# Altium integrated library Integrated_Library1b.IntLib: 1312 symbols (part 57 of 58)
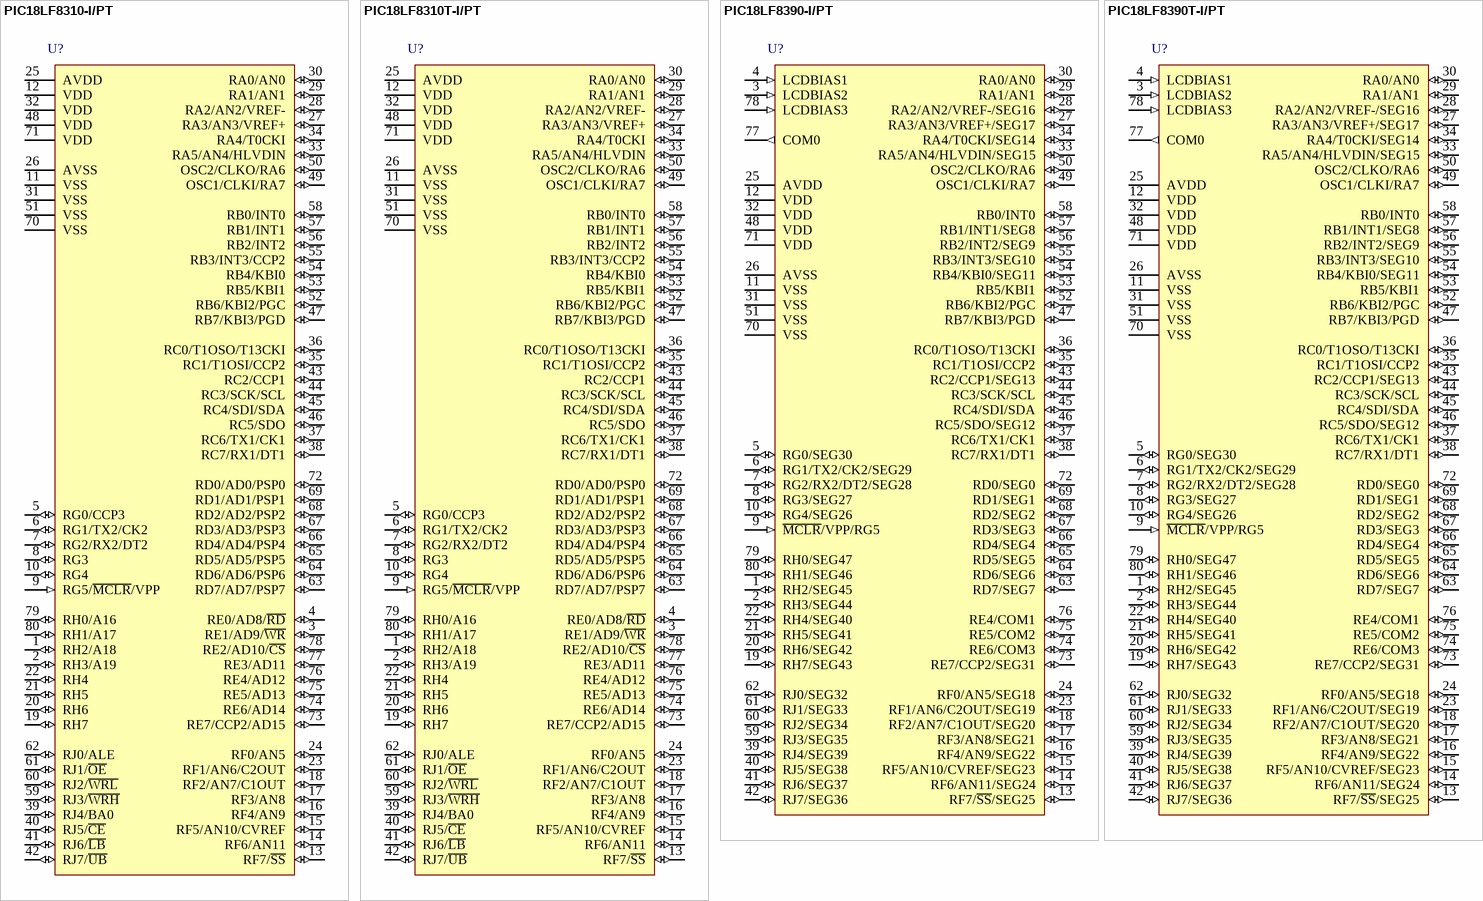
[diagram p205: symbols PIC18LF8310-I/PT to PIC18LF8390T-I/PT]

## PIC18LF8390-I/PT
designator U?
Flash Microcontroller with LCD Driver and nanoWatt Technology, 8K Flash, 80-Pin TQFP, Industrial Temperature Range; FirstPublished: 29-Jan-2009; DatasheetVersion: revC, Nov-2007; PackageVersion: revBB, Aug-2009; PackageReference: TQFP-PT80; Publisher: Altium Limited; PackageDescription: 80-Lead Thin Plastic Quad Flat Pack (PT) - 12x12x1mm Body, 2.00mm [TQFP]; Supplier 1: Digi-Key; Supplier Part Number 1: PIC18LF8390-I/PT-ND; Supplier 2: Newark; Supplier Part Number 2: 08J9693; Code_JEDEC: MS-026; ComponentLink1Description: Datasheet; ComponentLink1URL: http://ww1.microchip.com/downloads/en/DeviceDoc/39629c.pdf; ComponentLink2Description: Packaging Specification; ComponentLink2URL: http://www.microchip.com/stellent/groups/techpub_sg/documents/packagingspec/en012702.pdf; ComponentLink3Description: Microchip.com Home; ComponentLink3URL: http://www.microchip.com/
footprint TQFP-PT80_N (Thin QFP, 80-Leads, Body 12x12mm, Pitch 0.5mm, IPC Medium Density)
footprint TQFP-PT80_L (Thin QFP, 80-Leads, Body 12x12mm, Pitch 0.5mm, IPC High Density)
footprint TQFP-PT80_M (Thin QFP, 80-Leads, Body 12x12mm, Pitch 0.5mm, IPC Low Density)
pins: 1 RH2/SEG45 (io), 2 RH3/SEG44 (io), 3 LCDBIAS2 (in), 4 LCDBIAS1 (in), 5 RG0/SEG30 (io), 6 RG1/TX2/CK2/SEG29 (io), 7 RG2/RX2/DT2/SEG28 (io), 8 RG3/SEG27 (io), 9 ~{MCLR}/VPP/RG5 (in), 10 RG4/SEG26 (io), 11 VSS (power), 12 VDD (power), 13 RF7/~{SS}/SEG25 (io), 14 RF6/AN11/SEG24 (io), 15 RF5/AN10/CVREF/SEG23 (io), 16 RF4/AN9/SEG22 (io), 17 RF3/AN8/SEG21 (io), 18 RF2/AN7/C1OUT/SEG20 (io), 19 RH7/SEG43 (io), 20 RH6/SEG42 (io), 21 RH5/SEG41 (io), 22 RH4/SEG40 (io), 23 RF1/AN6/C2OUT/SEG19 (io), 24 RF0/AN5/SEG18 (io), 25 AVDD (power), 26 AVSS (power), 27 RA3/AN3/VREF+/SEG17 (io), 28 RA2/AN2/VREF-/SEG16 (io), 29 RA1/AN1 (io), 30 RA0/AN0 (io), 31 VSS (power), 32 VDD (power), 33 RA5/AN4/HLVDIN/SEG15 (io), 34 RA4/T0CKI/SEG14 (io), 35 RC1/T1OSI/CCP2 (io), 36 RC0/T1OSO/T13CKI (io), 37 RC6/TX1/CK1 (io), 38 RC7/RX1/DT1 (io), 39 RJ4/SEG39 (io), 40 RJ5/SEG38 (io), 41 RJ6/SEG37 (io), 42 RJ7/SEG36 (io), 43 RC2/CCP1/SEG13 (io), 44 RC3/SCK/SCL (io), 45 RC4/SDI/SDA (io), 46 RC5/SDO/SEG12 (io), 47 RB7/KBI3/PGD (io), 48 VDD (power), 49 OSC1/CLKI/RA7 (io), 50 OSC2/CLKO/RA6 (io), 51 VSS (power), 52 RB6/KBI2/PGC (io), 53 RB5/KBI1 (io), 54 RB4/KBI0/SEG11 (io), 55 RB3/INT3/SEG10 (io), 56 RB2/INT2/SEG9 (io), 57 RB1/INT1/SEG8 (io), 58 RB0/INT0 (io), 59 RJ3/SEG35 (io), 60 RJ2/SEG34 (io), 61 RJ1/SEG33 (io), 62 RJ0/SEG32 (io), 63 RD7/SEG7 (io), 64 RD6/SEG6 (io), 65 RD5/SEG5 (io), 66 RD4/SEG4 (io), 67 RD3/SEG3 (io), 68 RD2/SEG2 (io), 69 RD1/SEG1 (io), 70 VSS (power), 71 VDD (power), 72 RD0/SEG0 (io), 73 RE7/CCP2/SEG31 (io), 74 RE6/COM3 (io), 75 RE5/COM2 (io), 76 RE4/COM1 (io), 77 COM0 (out), 78 LCDBIAS3 (in), 79 RH0/SEG47 (io), 80 RH1/SEG46 (io)

## PIC18LF8390T-I/PT
designator U?
Flash Microcontroller with LCD Driver and nanoWatt Technology, 8K Flash, 80-Pin TQFP, Industrial Temperature Range, Tape and Reel; ComponentAvailability: Unknown. Contact manufacturer to determine status.; FirstPublished: 29-Jan-2009; DatasheetVersion: revC, Nov-2007; PackageVersion: revBB, Aug-2009; PackageReference: TQFP-PT80; Publisher: Altium Limited; PackageDescription: 80-Lead Thin Plastic Quad Flat Pack (PT) - 12x12x1mm Body, 2.00mm [TQFP]; Supplier 1: Digi-Key; Supplier Part Number 1: PIC18LF8390T-I/PT-ND; Supplier 2: Newark; Supplier Part Number 2: 08J9694; Code_JEDEC: MS-026; ComponentLink1Description: Datasheet; ComponentLink1URL: http://ww1.microchip.com/downloads/en/DeviceDoc/39629c.pdf; ComponentLink2Description: Packaging Specification; ComponentLink2URL: http://www.microchip.com/stellent/groups/techpub_sg/documents/packagingspec/en012702.pdf; ComponentLink3Description: Microchip.com Home; ComponentLink3URL: http://www.microchip.com/
footprint TQFP-PT80_N (Thin QFP, 80-Leads, Body 12x12mm, Pitch 0.5mm, IPC Medium Density)
footprint TQFP-PT80_L (Thin QFP, 80-Leads, Body 12x12mm, Pitch 0.5mm, IPC High Density)
footprint TQFP-PT80_M (Thin QFP, 80-Leads, Body 12x12mm, Pitch 0.5mm, IPC Low Density)
pins: 1 RH2/SEG45 (io), 2 RH3/SEG44 (io), 3 LCDBIAS2 (in), 4 LCDBIAS1 (in), 5 RG0/SEG30 (io), 6 RG1/TX2/CK2/SEG29 (io), 7 RG2/RX2/DT2/SEG28 (io), 8 RG3/SEG27 (io), 9 ~{MCLR}/VPP/RG5 (in), 10 RG4/SEG26 (io), 11 VSS (power), 12 VDD (power), 13 RF7/~{SS}/SEG25 (io), 14 RF6/AN11/SEG24 (io), 15 RF5/AN10/CVREF/SEG23 (io), 16 RF4/AN9/SEG22 (io), 17 RF3/AN8/SEG21 (io), 18 RF2/AN7/C1OUT/SEG20 (io), 19 RH7/SEG43 (io), 20 RH6/SEG42 (io), 21 RH5/SEG41 (io), 22 RH4/SEG40 (io), 23 RF1/AN6/C2OUT/SEG19 (io), 24 RF0/AN5/SEG18 (io), 25 AVDD (power), 26 AVSS (power), 27 RA3/AN3/VREF+/SEG17 (io), 28 RA2/AN2/VREF-/SEG16 (io), 29 RA1/AN1 (io), 30 RA0/AN0 (io), 31 VSS (power), 32 VDD (power), 33 RA5/AN4/HLVDIN/SEG15 (io), 34 RA4/T0CKI/SEG14 (io), 35 RC1/T1OSI/CCP2 (io), 36 RC0/T1OSO/T13CKI (io), 37 RC6/TX1/CK1 (io), 38 RC7/RX1/DT1 (io), 39 RJ4/SEG39 (io), 40 RJ5/SEG38 (io), 41 RJ6/SEG37 (io), 42 RJ7/SEG36 (io), 43 RC2/CCP1/SEG13 (io), 44 RC3/SCK/SCL (io), 45 RC4/SDI/SDA (io), 46 RC5/SDO/SEG12 (io), 47 RB7/KBI3/PGD (io), 48 VDD (power), 49 OSC1/CLKI/RA7 (io), 50 OSC2/CLKO/RA6 (io), 51 VSS (power), 52 RB6/KBI2/PGC (io), 53 RB5/KBI1 (io), 54 RB4/KBI0/SEG11 (io), 55 RB3/INT3/SEG10 (io), 56 RB2/INT2/SEG9 (io), 57 RB1/INT1/SEG8 (io), 58 RB0/INT0 (io), 59 RJ3/SEG35 (io), 60 RJ2/SEG34 (io), 61 RJ1/SEG33 (io), 62 RJ0/SEG32 (io), 63 RD7/SEG7 (io), 64 RD6/SEG6 (io), 65 RD5/SEG5 (io), 66 RD4/SEG4 (io), 67 RD3/SEG3 (io), 68 RD2/SEG2 (io), 69 RD1/SEG1 (io), 70 VSS (power), 71 VDD (power), 72 RD0/SEG0 (io), 73 RE7/CCP2/SEG31 (io), 74 RE6/COM3 (io), 75 RE5/COM2 (io), 76 RE4/COM1 (io), 77 COM0 (out), 78 LCDBIAS3 (in), 79 RH0/SEG47 (io), 80 RH1/SEG46 (io)

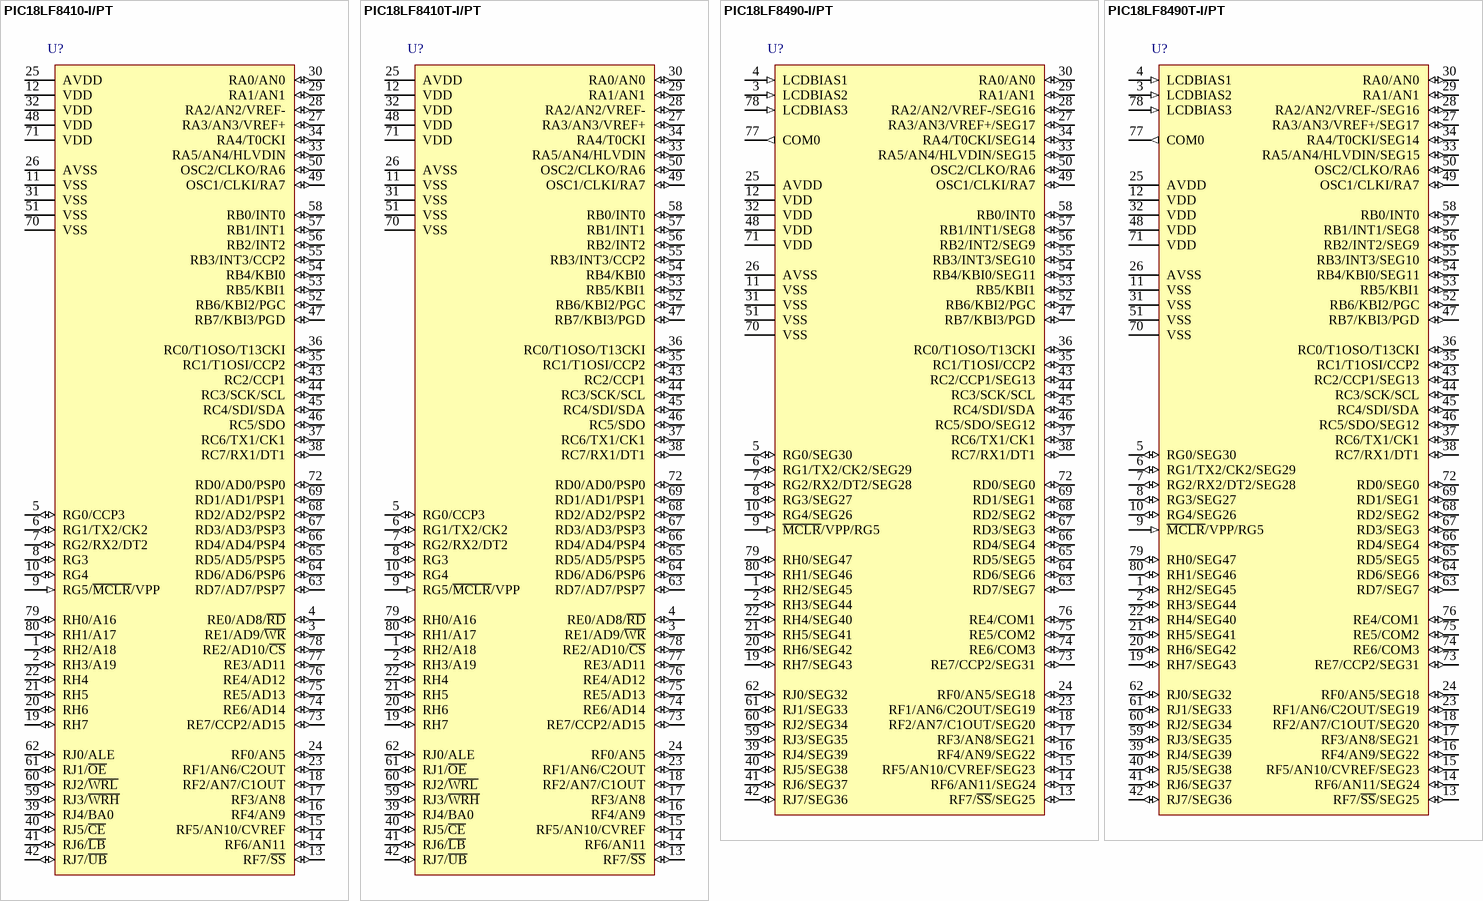
[diagram p144: symbols PIC18LF8410-I/PT to PIC18LF8490T-I/PT]

## PIC18LF8410-I/PT
designator U?
Flash Microcontroller with nanoWatt Technology, 16K Flash, 80-Pin TQFP, Industrial Temperature Range; FirstPublished: 29-Jan-2009; DatasheetVersion: revB, May-2007; PackageVersion: revBB, Aug-2009; PackageReference: TQFP-PT80; Publisher: Altium Limited; PackageDescription: 80-Lead Thin Plastic Quad Flat Pack (PT) - 12x12x1mm Body, 2.00mm [TQFP]; Supplier 1: Digi-Key; Supplier Part Number 1: PIC18LF8410-I/PT-ND; Supplier 2: Newark; Supplier Part Number 2: 08J9695; Code_JEDEC: MS-026; ComponentLink1Description: Datasheet; ComponentLink1URL: http://ww1.microchip.com/downloads/en/DeviceDoc/39635b.pdf; ComponentLink2Description: Packaging Specification; ComponentLink2URL: http://www.microchip.com/stellent/groups/techpub_sg/documents/packagingspec/en012702.pdf; ComponentLink3Description: Microchip.com Home; ComponentLink3URL: http://www.microchip.com/
footprint TQFP-PT80_N (Thin QFP, 80-Leads, Body 12x12mm, Pitch 0.5mm, IPC Medium Density)
footprint TQFP-PT80_L (Thin QFP, 80-Leads, Body 12x12mm, Pitch 0.5mm, IPC High Density)
footprint TQFP-PT80_M (Thin QFP, 80-Leads, Body 12x12mm, Pitch 0.5mm, IPC Low Density)
pins: 1 RH2/A18 (io), 2 RH3/A19 (io), 3 RE1/AD9/~{WR} (io), 4 RE0/AD8/~{RD} (io), 5 RG0/CCP3 (io), 6 RG1/TX2/CK2 (io), 7 RG2/RX2/DT2 (io), 8 RG3 (io), 9 RG5/~{MCLR}/VPP (in), 10 RG4 (io), 11 VSS (power), 12 VDD (power), 13 RF7/~{SS} (io), 14 RF6/AN11 (io), 15 RF5/AN10/CVREF (io), 16 RF4/AN9 (io), 17 RF3/AN8 (io), 18 RF2/AN7/C1OUT (io), 19 RH7 (io), 20 RH6 (io), 21 RH5 (io), 22 RH4 (io), 23 RF1/AN6/C2OUT (io), 24 RF0/AN5 (io), 25 AVDD (power), 26 AVSS (power), 27 RA3/AN3/VREF+ (io), 28 RA2/AN2/VREF- (io), 29 RA1/AN1 (io), 30 RA0/AN0 (io), 31 VSS (power), 32 VDD (power), 33 RA5/AN4/HLVDIN (io), 34 RA4/T0CKI (io), 35 RC1/T1OSI/CCP2 (io), 36 RC0/T1OSO/T13CKI (io), 37 RC6/TX1/CK1 (io), 38 RC7/RX1/DT1 (io), 39 RJ4/BA0 (io), 40 RJ5/~{CE} (io), 41 RJ6/~{LB} (io), 42 RJ7/~{UB} (io), 43 RC2/CCP1 (io), 44 RC3/SCK/SCL (io), 45 RC4/SDI/SDA (io), 46 RC5/SDO (io), 47 RB7/KBI3/PGD (io), 48 VDD (power), 49 OSC1/CLKI/RA7 (io), 50 OSC2/CLKO/RA6 (io), 51 VSS (power), 52 RB6/KBI2/PGC (io), 53 RB5/KBI1 (io), 54 RB4/KBI0 (io), 55 RB3/INT3/CCP2 (io), 56 RB2/INT2 (io), 57 RB1/INT1 (io), 58 RB0/INT0 (io), 59 RJ3/~{WRH} (io), 60 RJ2/~{WRL} (io), 61 RJ1/~{OE} (io), 62 RJ0/ALE (io), 63 RD7/AD7/PSP7 (io), 64 RD6/AD6/PSP6 (io), 65 RD5/AD5/PSP5 (io), 66 RD4/AD4/PSP4 (io), 67 RD3/AD3/PSP3 (io), 68 RD2/AD2/PSP2 (io), 69 RD1/AD1/PSP1 (io), 70 VSS (power), 71 VDD (power), 72 RD0/AD0/PSP0 (io), 73 RE7/CCP2/AD15 (io), 74 RE6/AD14 (io), 75 RE5/AD13 (io), 76 RE4/AD12 (io), 77 RE3/AD11 (io), 78 RE2/AD10/~{CS} (io), 79 RH0/A16 (io), 80 RH1/A17 (io)

## PIC18LF8410T-I/PT
designator U?
Flash Microcontroller with nanoWatt Technology, 16K Flash, 80-Pin TQFP, Industrial Temperature Range, Tape and Reel; ComponentAvailability: Unknown. Contact manufacturer to determine status.; FirstPublished: 29-Jan-2009; DatasheetVersion: revB, May-2007; PackageVersion: revBB, Aug-2009; PackageReference: TQFP-PT80; Publisher: Altium Limited; PackageDescription: 80-Lead Thin Plastic Quad Flat Pack (PT) - 12x12x1mm Body, 2.00mm [TQFP]; Supplier 1: Digi-Key; Supplier Part Number 1: PIC18LF8410T-I/PT-ND; Supplier 2: Newark; Supplier Part Number 2: 08J9696; Code_JEDEC: MS-026; ComponentLink1Description: Datasheet; ComponentLink1URL: http://ww1.microchip.com/downloads/en/DeviceDoc/39635b.pdf; ComponentLink2Description: Packaging Specification; ComponentLink2URL: http://www.microchip.com/stellent/groups/techpub_sg/documents/packagingspec/en012702.pdf; ComponentLink3Description: Microchip.com Home; ComponentLink3URL: http://www.microchip.com/
footprint TQFP-PT80_N (Thin QFP, 80-Leads, Body 12x12mm, Pitch 0.5mm, IPC Medium Density)
footprint TQFP-PT80_L (Thin QFP, 80-Leads, Body 12x12mm, Pitch 0.5mm, IPC High Density)
footprint TQFP-PT80_M (Thin QFP, 80-Leads, Body 12x12mm, Pitch 0.5mm, IPC Low Density)
pins: 1 RH2/A18 (io), 2 RH3/A19 (io), 3 RE1/AD9/~{WR} (io), 4 RE0/AD8/~{RD} (io), 5 RG0/CCP3 (io), 6 RG1/TX2/CK2 (io), 7 RG2/RX2/DT2 (io), 8 RG3 (io), 9 RG5/~{MCLR}/VPP (in), 10 RG4 (io), 11 VSS (power), 12 VDD (power), 13 RF7/~{SS} (io), 14 RF6/AN11 (io), 15 RF5/AN10/CVREF (io), 16 RF4/AN9 (io), 17 RF3/AN8 (io), 18 RF2/AN7/C1OUT (io), 19 RH7 (io), 20 RH6 (io), 21 RH5 (io), 22 RH4 (io), 23 RF1/AN6/C2OUT (io), 24 RF0/AN5 (io), 25 AVDD (power), 26 AVSS (power), 27 RA3/AN3/VREF+ (io), 28 RA2/AN2/VREF- (io), 29 RA1/AN1 (io), 30 RA0/AN0 (io), 31 VSS (power), 32 VDD (power), 33 RA5/AN4/HLVDIN (io), 34 RA4/T0CKI (io), 35 RC1/T1OSI/CCP2 (io), 36 RC0/T1OSO/T13CKI (io), 37 RC6/TX1/CK1 (io), 38 RC7/RX1/DT1 (io), 39 RJ4/BA0 (io), 40 RJ5/~{CE} (io), 41 RJ6/~{LB} (io), 42 RJ7/~{UB} (io), 43 RC2/CCP1 (io), 44 RC3/SCK/SCL (io), 45 RC4/SDI/SDA (io), 46 RC5/SDO (io), 47 RB7/KBI3/PGD (io), 48 VDD (power), 49 OSC1/CLKI/RA7 (io), 50 OSC2/CLKO/RA6 (io), 51 VSS (power), 52 RB6/KBI2/PGC (io), 53 RB5/KBI1 (io), 54 RB4/KBI0 (io), 55 RB3/INT3/CCP2 (io), 56 RB2/INT2 (io), 57 RB1/INT1 (io), 58 RB0/INT0 (io), 59 RJ3/~{WRH} (io), 60 RJ2/~{WRL} (io), 61 RJ1/~{OE} (io), 62 RJ0/ALE (io), 63 RD7/AD7/PSP7 (io), 64 RD6/AD6/PSP6 (io), 65 RD5/AD5/PSP5 (io), 66 RD4/AD4/PSP4 (io), 67 RD3/AD3/PSP3 (io), 68 RD2/AD2/PSP2 (io), 69 RD1/AD1/PSP1 (io), 70 VSS (power), 71 VDD (power), 72 RD0/AD0/PSP0 (io), 73 RE7/CCP2/AD15 (io), 74 RE6/AD14 (io), 75 RE5/AD13 (io), 76 RE4/AD12 (io), 77 RE3/AD11 (io), 78 RE2/AD10/~{CS} (io), 79 RH0/A16 (io), 80 RH1/A17 (io)

## PIC18LF8490-I/PT
designator U?
Flash Microcontroller with LCD Driver and nanoWatt Technology, 16K Flash, 80-Pin TQFP, Industrial Temperature Range; FirstPublished: 29-Jan-2009; DatasheetVersion: revC, Nov-2007; PackageVersion: revBB, Aug-2009; PackageReference: TQFP-PT80; Publisher: Altium Limited; PackageDescription: 80-Lead Thin Plastic Quad Flat Pack (PT) - 12x12x1mm Body, 2.00mm [TQFP]; Supplier 1: Digi-Key; Supplier Part Number 1: PIC18LF8490-I/PT-ND; Supplier 2: Newark; Supplier Part Number 2: 08J9697; Code_JEDEC: MS-026; ComponentLink1Description: Datasheet; ComponentLink1URL: http://ww1.microchip.com/downloads/en/DeviceDoc/39629c.pdf; ComponentLink2Description: Packaging Specification; ComponentLink2URL: http://www.microchip.com/stellent/groups/techpub_sg/documents/packagingspec/en012702.pdf; ComponentLink3Description: Microchip.com Home; ComponentLink3URL: http://www.microchip.com/
footprint TQFP-PT80_N (Thin QFP, 80-Leads, Body 12x12mm, Pitch 0.5mm, IPC Medium Density)
footprint TQFP-PT80_L (Thin QFP, 80-Leads, Body 12x12mm, Pitch 0.5mm, IPC High Density)
footprint TQFP-PT80_M (Thin QFP, 80-Leads, Body 12x12mm, Pitch 0.5mm, IPC Low Density)
pins: 1 RH2/SEG45 (io), 2 RH3/SEG44 (io), 3 LCDBIAS2 (in), 4 LCDBIAS1 (in), 5 RG0/SEG30 (io), 6 RG1/TX2/CK2/SEG29 (io), 7 RG2/RX2/DT2/SEG28 (io), 8 RG3/SEG27 (io), 9 ~{MCLR}/VPP/RG5 (in), 10 RG4/SEG26 (io), 11 VSS (power), 12 VDD (power), 13 RF7/~{SS}/SEG25 (io), 14 RF6/AN11/SEG24 (io), 15 RF5/AN10/CVREF/SEG23 (io), 16 RF4/AN9/SEG22 (io), 17 RF3/AN8/SEG21 (io), 18 RF2/AN7/C1OUT/SEG20 (io), 19 RH7/SEG43 (io), 20 RH6/SEG42 (io), 21 RH5/SEG41 (io), 22 RH4/SEG40 (io), 23 RF1/AN6/C2OUT/SEG19 (io), 24 RF0/AN5/SEG18 (io), 25 AVDD (power), 26 AVSS (power), 27 RA3/AN3/VREF+/SEG17 (io), 28 RA2/AN2/VREF-/SEG16 (io), 29 RA1/AN1 (io), 30 RA0/AN0 (io), 31 VSS (power), 32 VDD (power), 33 RA5/AN4/HLVDIN/SEG15 (io), 34 RA4/T0CKI/SEG14 (io), 35 RC1/T1OSI/CCP2 (io), 36 RC0/T1OSO/T13CKI (io), 37 RC6/TX1/CK1 (io), 38 RC7/RX1/DT1 (io), 39 RJ4/SEG39 (io), 40 RJ5/SEG38 (io), 41 RJ6/SEG37 (io), 42 RJ7/SEG36 (io), 43 RC2/CCP1/SEG13 (io), 44 RC3/SCK/SCL (io), 45 RC4/SDI/SDA (io), 46 RC5/SDO/SEG12 (io), 47 RB7/KBI3/PGD (io), 48 VDD (power), 49 OSC1/CLKI/RA7 (io), 50 OSC2/CLKO/RA6 (io), 51 VSS (power), 52 RB6/KBI2/PGC (io), 53 RB5/KBI1 (io), 54 RB4/KBI0/SEG11 (io), 55 RB3/INT3/SEG10 (io), 56 RB2/INT2/SEG9 (io), 57 RB1/INT1/SEG8 (io), 58 RB0/INT0 (io), 59 RJ3/SEG35 (io), 60 RJ2/SEG34 (io), 61 RJ1/SEG33 (io), 62 RJ0/SEG32 (io), 63 RD7/SEG7 (io), 64 RD6/SEG6 (io), 65 RD5/SEG5 (io), 66 RD4/SEG4 (io), 67 RD3/SEG3 (io), 68 RD2/SEG2 (io), 69 RD1/SEG1 (io), 70 VSS (power), 71 VDD (power), 72 RD0/SEG0 (io), 73 RE7/CCP2/SEG31 (io), 74 RE6/COM3 (io), 75 RE5/COM2 (io), 76 RE4/COM1 (io), 77 COM0 (out), 78 LCDBIAS3 (in), 79 RH0/SEG47 (io), 80 RH1/SEG46 (io)

## PIC18LF8490T-I/PT
designator U?
Flash Microcontroller with LCD Driver and nanoWatt Technology, 16K Flash, 80-Pin TQFP, Industrial Temperature Range, Tape and Reel; FirstPublished: 29-Jan-2009; DatasheetVersion: revC, Nov-2007; PackageVersion: revBB, Aug-2009; PackageReference: TQFP-PT80; Publisher: Altium Limited; PackageDescription: 80-Lead Thin Plastic Quad Flat Pack (PT) - 12x12x1mm Body, 2.00mm [TQFP]; Supplier 1: Digi-Key; Supplier Part Number 1: PIC18LF8490T-I/PT-ND; Supplier 2: Newark; Supplier Part Number 2: 08J9698; Code_JEDEC: MS-026; ComponentLink1Description: Datasheet; ComponentLink1URL: http://ww1.microchip.com/downloads/en/DeviceDoc/39629c.pdf; ComponentLink2Description: Packaging Specification; ComponentLink2URL: http://www.microchip.com/stellent/groups/techpub_sg/documents/packagingspec/en012702.pdf; ComponentLink3Description: Microchip.com Home; ComponentLink3URL: http://www.microchip.com/
footprint TQFP-PT80_N (Thin QFP, 80-Leads, Body 12x12mm, Pitch 0.5mm, IPC Medium Density)
footprint TQFP-PT80_L (Thin QFP, 80-Leads, Body 12x12mm, Pitch 0.5mm, IPC High Density)
footprint TQFP-PT80_M (Thin QFP, 80-Leads, Body 12x12mm, Pitch 0.5mm, IPC Low Density)
pins: 1 RH2/SEG45 (io), 2 RH3/SEG44 (io), 3 LCDBIAS2 (in), 4 LCDBIAS1 (in), 5 RG0/SEG30 (io), 6 RG1/TX2/CK2/SEG29 (io), 7 RG2/RX2/DT2/SEG28 (io), 8 RG3/SEG27 (io), 9 ~{MCLR}/VPP/RG5 (in), 10 RG4/SEG26 (io), 11 VSS (power), 12 VDD (power), 13 RF7/~{SS}/SEG25 (io), 14 RF6/AN11/SEG24 (io), 15 RF5/AN10/CVREF/SEG23 (io), 16 RF4/AN9/SEG22 (io), 17 RF3/AN8/SEG21 (io), 18 RF2/AN7/C1OUT/SEG20 (io), 19 RH7/SEG43 (io), 20 RH6/SEG42 (io), 21 RH5/SEG41 (io), 22 RH4/SEG40 (io), 23 RF1/AN6/C2OUT/SEG19 (io), 24 RF0/AN5/SEG18 (io), 25 AVDD (power), 26 AVSS (power), 27 RA3/AN3/VREF+/SEG17 (io), 28 RA2/AN2/VREF-/SEG16 (io), 29 RA1/AN1 (io), 30 RA0/AN0 (io), 31 VSS (power), 32 VDD (power), 33 RA5/AN4/HLVDIN/SEG15 (io), 34 RA4/T0CKI/SEG14 (io), 35 RC1/T1OSI/CCP2 (io), 36 RC0/T1OSO/T13CKI (io), 37 RC6/TX1/CK1 (io), 38 RC7/RX1/DT1 (io), 39 RJ4/SEG39 (io), 40 RJ5/SEG38 (io), 41 RJ6/SEG37 (io), 42 RJ7/SEG36 (io), 43 RC2/CCP1/SEG13 (io), 44 RC3/SCK/SCL (io), 45 RC4/SDI/SDA (io), 46 RC5/SDO/SEG12 (io), 47 RB7/KBI3/PGD (io), 48 VDD (power), 49 OSC1/CLKI/RA7 (io), 50 OSC2/CLKO/RA6 (io), 51 VSS (power), 52 RB6/KBI2/PGC (io), 53 RB5/KBI1 (io), 54 RB4/KBI0/SEG11 (io), 55 RB3/INT3/SEG10 (io), 56 RB2/INT2/SEG9 (io), 57 RB1/INT1/SEG8 (io), 58 RB0/INT0 (io), 59 RJ3/SEG35 (io), 60 RJ2/SEG34 (io), 61 RJ1/SEG33 (io), 62 RJ0/SEG32 (io), 63 RD7/SEG7 (io), 64 RD6/SEG6 (io), 65 RD5/SEG5 (io), 66 RD4/SEG4 (io), 67 RD3/SEG3 (io), 68 RD2/SEG2 (io), 69 RD1/SEG1 (io), 70 VSS (power), 71 VDD (power), 72 RD0/SEG0 (io), 73 RE7/CCP2/SEG31 (io), 74 RE6/COM3 (io), 75 RE5/COM2 (io), 76 RE4/COM1 (io), 77 COM0 (out), 78 LCDBIAS3 (in), 79 RH0/SEG47 (io), 80 RH1/SEG46 (io)

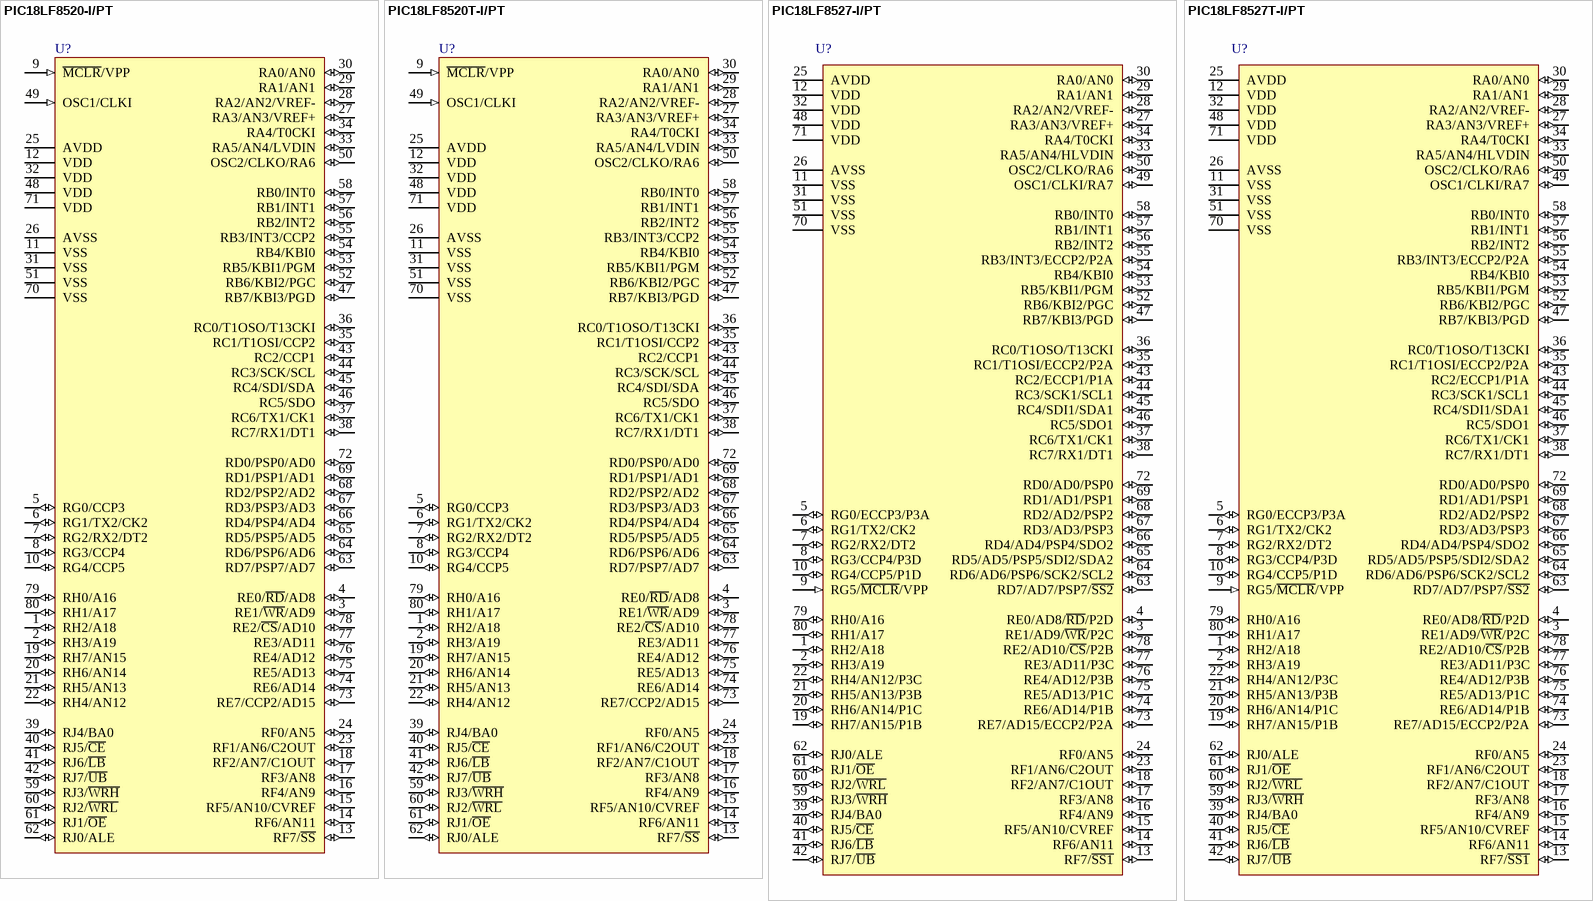
[diagram p145: symbols PIC18LF8520-I/PT to PIC18LF8527T-I/PT]

## PIC18LF8520-I/PT
designator U?
High Performance, 32K Enhanced Flash Microcontroller with A/D, 80-Pin TQFP, Industrial Temperature; FirstPublished: 11-Oct-2004; LatestRevisionDate: 29-Jan-2009; LatestRevisionNote: Sch. layout revised. 3D Model Removed.; DatasheetVersion: revB, Oct-2005; PackageVersion: revBB, Aug-2009; PackageReference: TQFP-PT80; Publisher: Altium Limited; PackageDescription: 80-Lead Thin Plastic Quad Flat Pack (PT) - 12x12x1mm Body, 2.00mm [TQFP]; Supplier 1: Digi-Key; Supplier Part Number 1: PIC18LF8520-I/PT-ND; Supplier 2: Farnell; Supplier Part Number 2: 6467295; Supplier 3: Newark; Supplier Part Number 3: 29H9750; Code_JEDEC: MS-026; ComponentLink1Description: Datasheet; ComponentLink1URL: http://ww1.microchip.com/downloads/en/DeviceDoc/39609b.pdf; ComponentLink2Description: Packaging Specification; ComponentLink2URL: http://www.microchip.com/stellent/groups/techpub_sg/documents/packagingspec/en012702.pdf; ComponentLink3Description: Microchip.com Home; ComponentLink3URL: http://www.microchip.com/
footprint TQFP-PT80_N (Thin QFP, 80-Leads, Body 12x12mm, Pitch 0.5mm, IPC Medium Density)
footprint TQFP-PT80_L (Thin QFP, 80-Leads, Body 12x12mm, Pitch 0.5mm, IPC High Density)
footprint TQFP-PT80_M (Thin QFP, 80-Leads, Body 12x12mm, Pitch 0.5mm, IPC Low Density)
pins: 1 RH2/A18 (io), 2 RH3/A19 (io), 3 RE1/~{WR}/AD9 (io), 4 RE0/~{RD}/AD8 (io), 5 RG0/CCP3 (io), 6 RG1/TX2/CK2 (io), 7 RG2/RX2/DT2 (io), 8 RG3/CCP4 (io), 9 ~{MCLR}/VPP (in), 10 RG4/CCP5 (io), 11 VSS (power), 12 VDD (power), 13 RF7/~{SS} (io), 14 RF6/AN11 (io), 15 RF5/AN10/CVREF (io), 16 RF4/AN9 (io), 17 RF3/AN8 (io), 18 RF2/AN7/C1OUT (io), 19 RH7/AN15 (io), 20 RH6/AN14 (io), 21 RH5/AN13 (io), 22 RH4/AN12 (io), 23 RF1/AN6/C2OUT (io), 24 RF0/AN5 (io), 25 AVDD (power), 26 AVSS (power), 27 RA3/AN3/VREF+ (io), 28 RA2/AN2/VREF- (io), 29 RA1/AN1 (io), 30 RA0/AN0 (io), 31 VSS (power), 32 VDD (power), 33 RA5/AN4/LVDIN (io), 34 RA4/T0CKI (io), 35 RC1/T1OSI/CCP2 (io), 36 RC0/T1OSO/T13CKI (io), 37 RC6/TX1/CK1 (io), 38 RC7/RX1/DT1 (io), 39 RJ4/BA0 (io), 40 RJ5/~{CE} (io), 41 RJ6/~{LB} (io), 42 RJ7/~{UB} (io), 43 RC2/CCP1 (io), 44 RC3/SCK/SCL (io), 45 RC4/SDI/SDA (io), 46 RC5/SDO (io), 47 RB7/KBI3/PGD (io), 48 VDD (power), 49 OSC1/CLKI (in), 50 OSC2/CLKO/RA6 (io), 51 VSS (power), 52 RB6/KBI2/PGC (io), 53 RB5/KBI1/PGM (io), 54 RB4/KBI0 (io), 55 RB3/INT3/CCP2 (io), 56 RB2/INT2 (io), 57 RB1/INT1 (io), 58 RB0/INT0 (io), 59 RJ3/~{WRH} (io), 60 RJ2/~{WRL} (io), 61 RJ1/~{OE} (io), 62 RJ0/ALE (io), 63 RD7/PSP7/AD7 (io), 64 RD6/PSP6/AD6 (io), 65 RD5/PSP5/AD5 (io), 66 RD4/PSP4/AD4 (io), 67 RD3/PSP3/AD3 (io), 68 RD2/PSP2/AD2 (io), 69 RD1/PSP1/AD1 (io), 70 VSS (power), 71 VDD (power), 72 RD0/PSP0/AD0 (io), 73 RE7/CCP2/AD15 (io), 74 RE6/AD14 (io), 75 RE5/AD13 (io), 76 RE4/AD12 (io), 77 RE3/AD11 (io), 78 RE2/~{CS}/AD10 (io), 79 RH0/A16 (io), 80 RH1/A17 (io)

## PIC18LF8520T-I/PT
designator U?
High Performance, 32K Enhanced Flash Microcontroller with A/D, 80-Pin TQFP, Industrial Temperature, Tape and Reel; FirstPublished: 11-Oct-2004; LatestRevisionDate: 29-Jan-2009; LatestRevisionNote: Sch. layout revised. 3D Model Removed.; DatasheetVersion: revB, Oct-2005; PackageVersion: revBB, Aug-2009; PackageReference: TQFP-PT80; Publisher: Altium Limited; PackageDescription: 80-Lead Thin Plastic Quad Flat Pack (PT) - 12x12x1mm Body, 2.00mm [TQFP]; Supplier 1: Digi-Key; Supplier Part Number 1: PIC18LF8520T-I/PT-ND; Supplier 2: Newark; Supplier Part Number 2: 29H9751; Code_JEDEC: MS-026; ComponentLink1Description: Datasheet; ComponentLink1URL: http://ww1.microchip.com/downloads/en/DeviceDoc/39609b.pdf; ComponentLink2Description: Packaging Specification; ComponentLink2URL: http://www.microchip.com/stellent/groups/techpub_sg/documents/packagingspec/en012702.pdf; ComponentLink3Description: Microchip.com Home; ComponentLink3URL: http://www.microchip.com/
footprint TQFP-PT80_N (Thin QFP, 80-Leads, Body 12x12mm, Pitch 0.5mm, IPC Medium Density)
footprint TQFP-PT80_L (Thin QFP, 80-Leads, Body 12x12mm, Pitch 0.5mm, IPC High Density)
footprint TQFP-PT80_M (Thin QFP, 80-Leads, Body 12x12mm, Pitch 0.5mm, IPC Low Density)
pins: 1 RH2/A18 (io), 2 RH3/A19 (io), 3 RE1/~{WR}/AD9 (io), 4 RE0/~{RD}/AD8 (io), 5 RG0/CCP3 (io), 6 RG1/TX2/CK2 (io), 7 RG2/RX2/DT2 (io), 8 RG3/CCP4 (io), 9 ~{MCLR}/VPP (in), 10 RG4/CCP5 (io), 11 VSS (power), 12 VDD (power), 13 RF7/~{SS} (io), 14 RF6/AN11 (io), 15 RF5/AN10/CVREF (io), 16 RF4/AN9 (io), 17 RF3/AN8 (io), 18 RF2/AN7/C1OUT (io), 19 RH7/AN15 (io), 20 RH6/AN14 (io), 21 RH5/AN13 (io), 22 RH4/AN12 (io), 23 RF1/AN6/C2OUT (io), 24 RF0/AN5 (io), 25 AVDD (power), 26 AVSS (power), 27 RA3/AN3/VREF+ (io), 28 RA2/AN2/VREF- (io), 29 RA1/AN1 (io), 30 RA0/AN0 (io), 31 VSS (power), 32 VDD (power), 33 RA5/AN4/LVDIN (io), 34 RA4/T0CKI (io), 35 RC1/T1OSI/CCP2 (io), 36 RC0/T1OSO/T13CKI (io), 37 RC6/TX1/CK1 (io), 38 RC7/RX1/DT1 (io), 39 RJ4/BA0 (io), 40 RJ5/~{CE} (io), 41 RJ6/~{LB} (io), 42 RJ7/~{UB} (io), 43 RC2/CCP1 (io), 44 RC3/SCK/SCL (io), 45 RC4/SDI/SDA (io), 46 RC5/SDO (io), 47 RB7/KBI3/PGD (io), 48 VDD (power), 49 OSC1/CLKI (in), 50 OSC2/CLKO/RA6 (io), 51 VSS (power), 52 RB6/KBI2/PGC (io), 53 RB5/KBI1/PGM (io), 54 RB4/KBI0 (io), 55 RB3/INT3/CCP2 (io), 56 RB2/INT2 (io), 57 RB1/INT1 (io), 58 RB0/INT0 (io), 59 RJ3/~{WRH} (io), 60 RJ2/~{WRL} (io), 61 RJ1/~{OE} (io), 62 RJ0/ALE (io), 63 RD7/PSP7/AD7 (io), 64 RD6/PSP6/AD6 (io), 65 RD5/PSP5/AD5 (io), 66 RD4/PSP4/AD4 (io), 67 RD3/PSP3/AD3 (io), 68 RD2/PSP2/AD2 (io), 69 RD1/PSP1/AD1 (io), 70 VSS (power), 71 VDD (power), 72 RD0/PSP0/AD0 (io), 73 RE7/CCP2/AD15 (io), 74 RE6/AD14 (io), 75 RE5/AD13 (io), 76 RE4/AD12 (io), 77 RE3/AD11 (io), 78 RE2/~{CS}/AD10 (io), 79 RH0/A16 (io), 80 RH1/A17 (io)

## PIC18LF8527-I/PT
designator U?
1-Mbit, Enhanced Flash Microcontroller with 10-Bit A/D and nanoWatt Technology, 48K Flash, 80-Pin TQFP, Industrial Temperature Range; FirstPublished: 29-Jan-2009; DatasheetVersion: revC, Oct-2008; PackageVersion: revBB, Aug-2009; PackageReference: TQFP-PT80; Publisher: Altium Limited; PackageDescription: 80-Lead Thin Plastic Quad Flat Pack (PT) - 12x12x1mm Body, 2.00mm [TQFP]; Supplier 1: Digi-Key; Supplier Part Number 1: PIC18LF8527-I/PT-ND; Supplier 2: Newark; Supplier Part Number 2: 71J7299; Code_JEDEC: MS-026; ComponentLink1Description: Datasheet; ComponentLink1URL: http://ww1.microchip.com/downloads/en/DeviceDoc/39646c.pdf; ComponentLink2Description: Packaging Specification; ComponentLink2URL: http://www.microchip.com/stellent/groups/techpub_sg/documents/packagingspec/en012702.pdf; ComponentLink3Description: Microchip.com Home; ComponentLink3URL: http://www.microchip.com/
footprint TQFP-PT80_N (Thin QFP, 80-Leads, Body 12x12mm, Pitch 0.5mm, IPC Medium Density)
footprint TQFP-PT80_L (Thin QFP, 80-Leads, Body 12x12mm, Pitch 0.5mm, IPC High Density)
footprint TQFP-PT80_M (Thin QFP, 80-Leads, Body 12x12mm, Pitch 0.5mm, IPC Low Density)
pins: 1 RH2/A18 (io), 2 RH3/A19 (io), 3 RE1/AD9/~{WR}/P2C (io), 4 RE0/AD8/~{RD}/P2D (io), 5 RG0/ECCP3/P3A (io), 6 RG1/TX2/CK2 (io), 7 RG2/RX2/DT2 (io), 8 RG3/CCP4/P3D (io), 9 RG5/~{MCLR}/VPP (in), 10 RG4/CCP5/P1D (io), 11 VSS (power), 12 VDD (power), 13 RF7/~{SS1} (io), 14 RF6/AN11 (io), 15 RF5/AN10/CVREF (io), 16 RF4/AN9 (io), 17 RF3/AN8 (io), 18 RF2/AN7/C1OUT (io), 19 RH7/AN15/P1B (io), 20 RH6/AN14/P1C (io), 21 RH5/AN13/P3B (io), 22 RH4/AN12/P3C (io), 23 RF1/AN6/C2OUT (io), 24 RF0/AN5 (io), 25 AVDD (power), 26 AVSS (power), 27 RA3/AN3/VREF+ (io), 28 RA2/AN2/VREF- (io), 29 RA1/AN1 (io), 30 RA0/AN0 (io), 31 VSS (power), 32 VDD (power), 33 RA5/AN4/HLVDIN (io), 34 RA4/T0CKI (io), 35 RC1/T1OSI/ECCP2/P2A (io), 36 RC0/T1OSO/T13CKI (io), 37 RC6/TX1/CK1 (io), 38 RC7/RX1/DT1 (io), 39 RJ4/BA0 (io), 40 RJ5/~{CE} (io), 41 RJ6/~{LB} (io), 42 RJ7/~{UB} (io), 43 RC2/ECCP1/P1A (io), 44 RC3/SCK1/SCL1 (io), 45 RC4/SDI1/SDA1 (io), 46 RC5/SDO1 (io), 47 RB7/KBI3/PGD (io), 48 VDD (power), 49 OSC1/CLKI/RA7 (io), 50 OSC2/CLKO/RA6 (io), 51 VSS (power), 52 RB6/KBI2/PGC (io), 53 RB5/KBI1/PGM (io), 54 RB4/KBI0 (io), 55 RB3/INT3/ECCP2/P2A (io), 56 RB2/INT2 (io), 57 RB1/INT1 (io), 58 RB0/INT0 (io), 59 RJ3/~{WRH} (io), 60 RJ2/~{WRL} (io), 61 RJ1/~{OE} (io), 62 RJ0/ALE (io), 63 RD7/AD7/PSP7/~{SS2} (io), 64 RD6/AD6/PSP6/SCK2/SCL2 (io), 65 RD5/AD5/PSP5/SDI2/SDA2 (io), 66 RD4/AD4/PSP4/SDO2 (io), 67 RD3/AD3/PSP3 (io), 68 RD2/AD2/PSP2 (io), 69 RD1/AD1/PSP1 (io), 70 VSS (power), 71 VDD (power), 72 RD0/AD0/PSP0 (io), 73 RE7/AD15/ECCP2/P2A (io), 74 RE6/AD14/P1B (io), 75 RE5/AD13/P1C (io), 76 RE4/AD12/P3B (io), 77 RE3/AD11/P3C (io), 78 RE2/AD10/~{CS}/P2B (io), 79 RH0/A16 (io), 80 RH1/A17 (io)

## PIC18LF8527T-I/PT
designator U?
1-Mbit, Enhanced Flash Microcontroller with 10-Bit A/D and nanoWatt Technology, 48K Flash, 80-Pin TQFP, Industrial Temperature Range, Tape and Reel; FirstPublished: 29-Jan-2009; DatasheetVersion: revC, Oct-2008; PackageVersion: revBB, Aug-2009; PackageReference: TQFP-PT80; Publisher: Altium Limited; PackageDescription: 80-Lead Thin Plastic Quad Flat Pack (PT) - 12x12x1mm Body, 2.00mm [TQFP]; Supplier 1: Digi-Key; Supplier Part Number 1: PIC18LF8527T-I/PT-ND; Supplier 2: Newark; Supplier Part Number 2: 31K5129; Code_JEDEC: MS-026; ComponentLink1Description: Datasheet; ComponentLink1URL: http://ww1.microchip.com/downloads/en/DeviceDoc/39646c.pdf; ComponentLink2Description: Packaging Specification; ComponentLink2URL: http://www.microchip.com/stellent/groups/techpub_sg/documents/packagingspec/en012702.pdf; ComponentLink3Description: Microchip.com Home; ComponentLink3URL: http://www.microchip.com/
footprint TQFP-PT80_N (Thin QFP, 80-Leads, Body 12x12mm, Pitch 0.5mm, IPC Medium Density)
footprint TQFP-PT80_L (Thin QFP, 80-Leads, Body 12x12mm, Pitch 0.5mm, IPC High Density)
footprint TQFP-PT80_M (Thin QFP, 80-Leads, Body 12x12mm, Pitch 0.5mm, IPC Low Density)
pins: 1 RH2/A18 (io), 2 RH3/A19 (io), 3 RE1/AD9/~{WR}/P2C (io), 4 RE0/AD8/~{RD}/P2D (io), 5 RG0/ECCP3/P3A (io), 6 RG1/TX2/CK2 (io), 7 RG2/RX2/DT2 (io), 8 RG3/CCP4/P3D (io), 9 RG5/~{MCLR}/VPP (in), 10 RG4/CCP5/P1D (io), 11 VSS (power), 12 VDD (power), 13 RF7/~{SS1} (io), 14 RF6/AN11 (io), 15 RF5/AN10/CVREF (io), 16 RF4/AN9 (io), 17 RF3/AN8 (io), 18 RF2/AN7/C1OUT (io), 19 RH7/AN15/P1B (io), 20 RH6/AN14/P1C (io), 21 RH5/AN13/P3B (io), 22 RH4/AN12/P3C (io), 23 RF1/AN6/C2OUT (io), 24 RF0/AN5 (io), 25 AVDD (power), 26 AVSS (power), 27 RA3/AN3/VREF+ (io), 28 RA2/AN2/VREF- (io), 29 RA1/AN1 (io), 30 RA0/AN0 (io), 31 VSS (power), 32 VDD (power), 33 RA5/AN4/HLVDIN (io), 34 RA4/T0CKI (io), 35 RC1/T1OSI/ECCP2/P2A (io), 36 RC0/T1OSO/T13CKI (io), 37 RC6/TX1/CK1 (io), 38 RC7/RX1/DT1 (io), 39 RJ4/BA0 (io), 40 RJ5/~{CE} (io), 41 RJ6/~{LB} (io), 42 RJ7/~{UB} (io), 43 RC2/ECCP1/P1A (io), 44 RC3/SCK1/SCL1 (io), 45 RC4/SDI1/SDA1 (io), 46 RC5/SDO1 (io), 47 RB7/KBI3/PGD (io), 48 VDD (power), 49 OSC1/CLKI/RA7 (io), 50 OSC2/CLKO/RA6 (io), 51 VSS (power), 52 RB6/KBI2/PGC (io), 53 RB5/KBI1/PGM (io), 54 RB4/KBI0 (io), 55 RB3/INT3/ECCP2/P2A (io), 56 RB2/INT2 (io), 57 RB1/INT1 (io), 58 RB0/INT0 (io), 59 RJ3/~{WRH} (io), 60 RJ2/~{WRL} (io), 61 RJ1/~{OE} (io), 62 RJ0/ALE (io), 63 RD7/AD7/PSP7/~{SS2} (io), 64 RD6/AD6/PSP6/SCK2/SCL2 (io), 65 RD5/AD5/PSP5/SDI2/SDA2 (io), 66 RD4/AD4/PSP4/SDO2 (io), 67 RD3/AD3/PSP3 (io), 68 RD2/AD2/PSP2 (io), 69 RD1/AD1/PSP1 (io), 70 VSS (power), 71 VDD (power), 72 RD0/AD0/PSP0 (io), 73 RE7/AD15/ECCP2/P2A (io), 74 RE6/AD14/P1B (io), 75 RE5/AD13/P1C (io), 76 RE4/AD12/P3B (io), 77 RE3/AD11/P3C (io), 78 RE2/AD10/~{CS}/P2B (io), 79 RH0/A16 (io), 80 RH1/A17 (io)

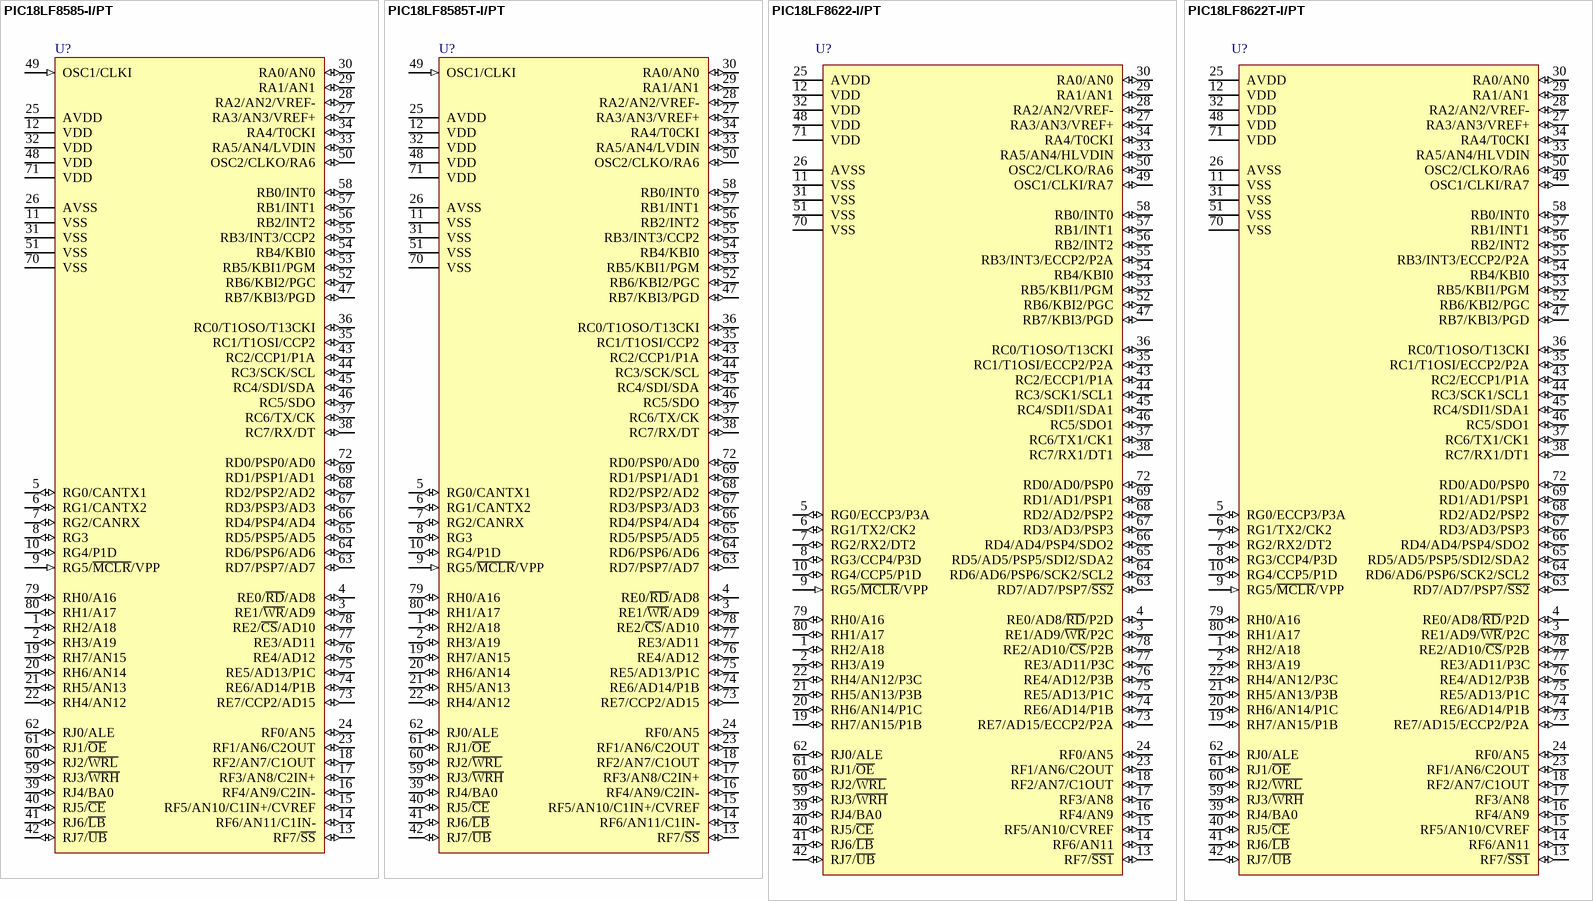
[diagram p146: symbols PIC18LF8585-I/PT to PIC18LF8622T-I/PT]

## PIC18LF8585-I/PT
designator U?
High Performance, 48Kbyte Enhanced Flash Microcontroller with ECAN Module, 80-Pin TQFP, Industrial Temperature; ComponentAvailability: Unknown. Contact manufacturer to determine status.; FirstPublished: 11-Oct-2004; LatestRevisionDate: 29-Jan-2009; LatestRevisionNote: Sch. layout revised. 3D Model Removed.; DatasheetVersion: revC, Mar-2004; PackageVersion: revBB, Aug-2009; PackageReference: TQFP-PT80; Publisher: Altium Limited; PackageDescription: 80-Lead Thin Plastic Quad Flat Pack (PT) - 12x12x1mm Body, 2.00mm [TQFP]; Supplier 1: Digi-Key; Supplier Part Number 1: PIC18LF8585-I/PT-ND; Supplier 2: Newark; Supplier Part Number 2: 61H5304; Code_JEDEC: MS-026; ComponentLink1Description: Datasheet; ComponentLink1URL: http://ww1.microchip.com/downloads/en/DeviceDoc/30491c.pdf; ComponentLink2Description: Packaging Specification; ComponentLink2URL: http://www.microchip.com/stellent/groups/techpub_sg/documents/packagingspec/en012702.pdf; ComponentLink3Description: Microchip.com Home; ComponentLink3URL: http://www.microchip.com/
footprint TQFP-PT80_N (Thin QFP, 80-Leads, Body 12x12mm, Pitch 0.5mm, IPC Medium Density)
footprint TQFP-PT80_L (Thin QFP, 80-Leads, Body 12x12mm, Pitch 0.5mm, IPC High Density)
footprint TQFP-PT80_M (Thin QFP, 80-Leads, Body 12x12mm, Pitch 0.5mm, IPC Low Density)
pins: 1 RH2/A18 (io), 2 RH3/A19 (io), 3 RE1/~{WR}/AD9 (io), 4 RE0/~{RD}/AD8 (io), 5 RG0/CANTX1 (io), 6 RG1/CANTX2 (io), 7 RG2/CANRX (io), 8 RG3 (io), 9 RG5/~{MCLR}/VPP (in), 10 RG4/P1D (io), 11 VSS (power), 12 VDD (power), 13 RF7/~{SS} (io), 14 RF6/AN11/C1IN- (io), 15 RF5/AN10/C1IN+/CVREF (io), 16 RF4/AN9/C2IN- (io), 17 RF3/AN8/C2IN+ (io), 18 RF2/AN7/C1OUT (io), 19 RH7/AN15 (io), 20 RH6/AN14 (io), 21 RH5/AN13 (io), 22 RH4/AN12 (io), 23 RF1/AN6/C2OUT (io), 24 RF0/AN5 (io), 25 AVDD (power), 26 AVSS (power), 27 RA3/AN3/VREF+ (io), 28 RA2/AN2/VREF- (io), 29 RA1/AN1 (io), 30 RA0/AN0 (io), 31 VSS (power), 32 VDD (power), 33 RA5/AN4/LVDIN (io), 34 RA4/T0CKI (io), 35 RC1/T1OSI/CCP2 (io), 36 RC0/T1OSO/T13CKI (io), 37 RC6/TX/CK (io), 38 RC7/RX/DT (io), 39 RJ4/BA0 (io), 40 RJ5/~{CE} (io), 41 RJ6/~{LB} (io), 42 RJ7/~{UB} (io), 43 RC2/CCP1/P1A (io), 44 RC3/SCK/SCL (io), 45 RC4/SDI/SDA (io), 46 RC5/SDO (io), 47 RB7/KBI3/PGD (io), 48 VDD (power), 49 OSC1/CLKI (in), 50 OSC2/CLKO/RA6 (io), 51 VSS (power), 52 RB6/KBI2/PGC (io), 53 RB5/KBI1/PGM (io), 54 RB4/KBI0 (io), 55 RB3/INT3/CCP2 (io), 56 RB2/INT2 (io), 57 RB1/INT1 (io), 58 RB0/INT0 (io), 59 RJ3/~{WRH} (io), 60 RJ2/~{WRL} (io), 61 RJ1/~{OE} (io), 62 RJ0/ALE (io), 63 RD7/PSP7/AD7 (io), 64 RD6/PSP6/AD6 (io), 65 RD5/PSP5/AD5 (io), 66 RD4/PSP4/AD4 (io), 67 RD3/PSP3/AD3 (io), 68 RD2/PSP2/AD2 (io), 69 RD1/PSP1/AD1 (io), 70 VSS (power), 71 VDD (power), 72 RD0/PSP0/AD0 (io), 73 RE7/CCP2/AD15 (io), 74 RE6/AD14/P1B (io), 75 RE5/AD13/P1C (io), 76 RE4/AD12 (io), 77 RE3/AD11 (io), 78 RE2/~{CS}/AD10 (io), 79 RH0/A16 (io), 80 RH1/A17 (io)

## PIC18LF8585T-I/PT
designator U?
High Performance, 48Kbyte Enhanced Flash Microcontroller with ECAN Module, 80-Pin TQFP, Industrial Temperature, Tape and Reel; ComponentAvailability: Unknown. Contact manufacturer to determine status.; FirstPublished: 11-Oct-2004; LatestRevisionDate: 29-Jan-2009; LatestRevisionNote: Sch. layout revised. 3D Model Removed.; DatasheetVersion: revC, Mar-2004; PackageVersion: revBB, Aug-2009; PackageReference: TQFP-PT80; Publisher: Altium Limited; PackageDescription: 80-Lead Thin Plastic Quad Flat Pack (PT) - 12x12x1mm Body, 2.00mm [TQFP]; Supplier 1: Digi-Key; Supplier Part Number 1: PIC18LF8585T-I/PT-ND; Supplier 2: Newark; Supplier Part Number 2: 61H5305; Code_JEDEC: MS-026; ComponentLink1Description: Datasheet; ComponentLink1URL: http://ww1.microchip.com/downloads/en/DeviceDoc/30491c.pdf; ComponentLink2Description: Packaging Specification; ComponentLink2URL: http://www.microchip.com/stellent/groups/techpub_sg/documents/packagingspec/en012702.pdf; ComponentLink3Description: Microchip.com Home; ComponentLink3URL: http://www.microchip.com/
footprint TQFP-PT80_N (Thin QFP, 80-Leads, Body 12x12mm, Pitch 0.5mm, IPC Medium Density)
footprint TQFP-PT80_L (Thin QFP, 80-Leads, Body 12x12mm, Pitch 0.5mm, IPC High Density)
footprint TQFP-PT80_M (Thin QFP, 80-Leads, Body 12x12mm, Pitch 0.5mm, IPC Low Density)
pins: 1 RH2/A18 (io), 2 RH3/A19 (io), 3 RE1/~{WR}/AD9 (io), 4 RE0/~{RD}/AD8 (io), 5 RG0/CANTX1 (io), 6 RG1/CANTX2 (io), 7 RG2/CANRX (io), 8 RG3 (io), 9 RG5/~{MCLR}/VPP (in), 10 RG4/P1D (io), 11 VSS (power), 12 VDD (power), 13 RF7/~{SS} (io), 14 RF6/AN11/C1IN- (io), 15 RF5/AN10/C1IN+/CVREF (io), 16 RF4/AN9/C2IN- (io), 17 RF3/AN8/C2IN+ (io), 18 RF2/AN7/C1OUT (io), 19 RH7/AN15 (io), 20 RH6/AN14 (io), 21 RH5/AN13 (io), 22 RH4/AN12 (io), 23 RF1/AN6/C2OUT (io), 24 RF0/AN5 (io), 25 AVDD (power), 26 AVSS (power), 27 RA3/AN3/VREF+ (io), 28 RA2/AN2/VREF- (io), 29 RA1/AN1 (io), 30 RA0/AN0 (io), 31 VSS (power), 32 VDD (power), 33 RA5/AN4/LVDIN (io), 34 RA4/T0CKI (io), 35 RC1/T1OSI/CCP2 (io), 36 RC0/T1OSO/T13CKI (io), 37 RC6/TX/CK (io), 38 RC7/RX/DT (io), 39 RJ4/BA0 (io), 40 RJ5/~{CE} (io), 41 RJ6/~{LB} (io), 42 RJ7/~{UB} (io), 43 RC2/CCP1/P1A (io), 44 RC3/SCK/SCL (io), 45 RC4/SDI/SDA (io), 46 RC5/SDO (io), 47 RB7/KBI3/PGD (io), 48 VDD (power), 49 OSC1/CLKI (in), 50 OSC2/CLKO/RA6 (io), 51 VSS (power), 52 RB6/KBI2/PGC (io), 53 RB5/KBI1/PGM (io), 54 RB4/KBI0 (io), 55 RB3/INT3/CCP2 (io), 56 RB2/INT2 (io), 57 RB1/INT1 (io), 58 RB0/INT0 (io), 59 RJ3/~{WRH} (io), 60 RJ2/~{WRL} (io), 61 RJ1/~{OE} (io), 62 RJ0/ALE (io), 63 RD7/PSP7/AD7 (io), 64 RD6/PSP6/AD6 (io), 65 RD5/PSP5/AD5 (io), 66 RD4/PSP4/AD4 (io), 67 RD3/PSP3/AD3 (io), 68 RD2/PSP2/AD2 (io), 69 RD1/PSP1/AD1 (io), 70 VSS (power), 71 VDD (power), 72 RD0/PSP0/AD0 (io), 73 RE7/CCP2/AD15 (io), 74 RE6/AD14/P1B (io), 75 RE5/AD13/P1C (io), 76 RE4/AD12 (io), 77 RE3/AD11 (io), 78 RE2/~{CS}/AD10 (io), 79 RH0/A16 (io), 80 RH1/A17 (io)

## PIC18LF8622-I/PT
designator U?
1-Mbit, Enhanced Flash Microcontroller with 10-Bit A/D and nanoWatt Technology, 64K Flash, 80-Pin TQFP, Industrial Temperature Range; FirstPublished: 29-Jan-2009; DatasheetVersion: revC, Oct-2008; PackageVersion: revBB, Aug-2009; PackageReference: TQFP-PT80; Publisher: Altium Limited; PackageDescription: 80-Lead Thin Plastic Quad Flat Pack (PT) - 12x12x1mm Body, 2.00mm [TQFP]; Supplier 1: Digi-Key; Supplier Part Number 1: PIC18LF8622-I/PT-ND; Supplier 2: Newark; Supplier Part Number 2: 71J7300; Code_JEDEC: MS-026; ComponentLink1Description: Datasheet; ComponentLink1URL: http://ww1.microchip.com/downloads/en/DeviceDoc/39646c.pdf; ComponentLink2Description: Packaging Specification; ComponentLink2URL: http://www.microchip.com/stellent/groups/techpub_sg/documents/packagingspec/en012702.pdf; ComponentLink3Description: Microchip.com Home; ComponentLink3URL: http://www.microchip.com/
footprint TQFP-PT80_N (Thin QFP, 80-Leads, Body 12x12mm, Pitch 0.5mm, IPC Medium Density)
footprint TQFP-PT80_L (Thin QFP, 80-Leads, Body 12x12mm, Pitch 0.5mm, IPC High Density)
footprint TQFP-PT80_M (Thin QFP, 80-Leads, Body 12x12mm, Pitch 0.5mm, IPC Low Density)
pins: 1 RH2/A18 (io), 2 RH3/A19 (io), 3 RE1/AD9/~{WR}/P2C (io), 4 RE0/AD8/~{RD}/P2D (io), 5 RG0/ECCP3/P3A (io), 6 RG1/TX2/CK2 (io), 7 RG2/RX2/DT2 (io), 8 RG3/CCP4/P3D (io), 9 RG5/~{MCLR}/VPP (in), 10 RG4/CCP5/P1D (io), 11 VSS (power), 12 VDD (power), 13 RF7/~{SS1} (io), 14 RF6/AN11 (io), 15 RF5/AN10/CVREF (io), 16 RF4/AN9 (io), 17 RF3/AN8 (io), 18 RF2/AN7/C1OUT (io), 19 RH7/AN15/P1B (io), 20 RH6/AN14/P1C (io), 21 RH5/AN13/P3B (io), 22 RH4/AN12/P3C (io), 23 RF1/AN6/C2OUT (io), 24 RF0/AN5 (io), 25 AVDD (power), 26 AVSS (power), 27 RA3/AN3/VREF+ (io), 28 RA2/AN2/VREF- (io), 29 RA1/AN1 (io), 30 RA0/AN0 (io), 31 VSS (power), 32 VDD (power), 33 RA5/AN4/HLVDIN (io), 34 RA4/T0CKI (io), 35 RC1/T1OSI/ECCP2/P2A (io), 36 RC0/T1OSO/T13CKI (io), 37 RC6/TX1/CK1 (io), 38 RC7/RX1/DT1 (io), 39 RJ4/BA0 (io), 40 RJ5/~{CE} (io), 41 RJ6/~{LB} (io), 42 RJ7/~{UB} (io), 43 RC2/ECCP1/P1A (io), 44 RC3/SCK1/SCL1 (io), 45 RC4/SDI1/SDA1 (io), 46 RC5/SDO1 (io), 47 RB7/KBI3/PGD (io), 48 VDD (power), 49 OSC1/CLKI/RA7 (io), 50 OSC2/CLKO/RA6 (io), 51 VSS (power), 52 RB6/KBI2/PGC (io), 53 RB5/KBI1/PGM (io), 54 RB4/KBI0 (io), 55 RB3/INT3/ECCP2/P2A (io), 56 RB2/INT2 (io), 57 RB1/INT1 (io), 58 RB0/INT0 (io), 59 RJ3/~{WRH} (io), 60 RJ2/~{WRL} (io), 61 RJ1/~{OE} (io), 62 RJ0/ALE (io), 63 RD7/AD7/PSP7/~{SS2} (io), 64 RD6/AD6/PSP6/SCK2/SCL2 (io), 65 RD5/AD5/PSP5/SDI2/SDA2 (io), 66 RD4/AD4/PSP4/SDO2 (io), 67 RD3/AD3/PSP3 (io), 68 RD2/AD2/PSP2 (io), 69 RD1/AD1/PSP1 (io), 70 VSS (power), 71 VDD (power), 72 RD0/AD0/PSP0 (io), 73 RE7/AD15/ECCP2/P2A (io), 74 RE6/AD14/P1B (io), 75 RE5/AD13/P1C (io), 76 RE4/AD12/P3B (io), 77 RE3/AD11/P3C (io), 78 RE2/AD10/~{CS}/P2B (io), 79 RH0/A16 (io), 80 RH1/A17 (io)

## PIC18LF8622T-I/PT
designator U?
1-Mbit, Enhanced Flash Microcontroller with 10-Bit A/D and nanoWatt Technology, 64K Flash, 80-Pin TQFP, Industrial Temperature Range, Tape and Reel; FirstPublished: 29-Jan-2009; DatasheetVersion: revC, Oct-2008; PackageVersion: revBB, Aug-2009; PackageReference: TQFP-PT80; Publisher: Altium Limited; PackageDescription: 80-Lead Thin Plastic Quad Flat Pack (PT) - 12x12x1mm Body, 2.00mm [TQFP]; Supplier 1: Digi-Key; Supplier Part Number 1: PIC18LF8622T-I/PT-ND; Supplier 2: Newark; Supplier Part Number 2: 31K5130; Code_JEDEC: MS-026; ComponentLink1Description: Datasheet; ComponentLink1URL: http://ww1.microchip.com/downloads/en/DeviceDoc/39646c.pdf; ComponentLink2Description: Packaging Specification; ComponentLink2URL: http://www.microchip.com/stellent/groups/techpub_sg/documents/packagingspec/en012702.pdf; ComponentLink3Description: Microchip.com Home; ComponentLink3URL: http://www.microchip.com/
footprint TQFP-PT80_N (Thin QFP, 80-Leads, Body 12x12mm, Pitch 0.5mm, IPC Medium Density)
footprint TQFP-PT80_L (Thin QFP, 80-Leads, Body 12x12mm, Pitch 0.5mm, IPC High Density)
footprint TQFP-PT80_M (Thin QFP, 80-Leads, Body 12x12mm, Pitch 0.5mm, IPC Low Density)
pins: 1 RH2/A18 (io), 2 RH3/A19 (io), 3 RE1/AD9/~{WR}/P2C (io), 4 RE0/AD8/~{RD}/P2D (io), 5 RG0/ECCP3/P3A (io), 6 RG1/TX2/CK2 (io), 7 RG2/RX2/DT2 (io), 8 RG3/CCP4/P3D (io), 9 RG5/~{MCLR}/VPP (in), 10 RG4/CCP5/P1D (io), 11 VSS (power), 12 VDD (power), 13 RF7/~{SS1} (io), 14 RF6/AN11 (io), 15 RF5/AN10/CVREF (io), 16 RF4/AN9 (io), 17 RF3/AN8 (io), 18 RF2/AN7/C1OUT (io), 19 RH7/AN15/P1B (io), 20 RH6/AN14/P1C (io), 21 RH5/AN13/P3B (io), 22 RH4/AN12/P3C (io), 23 RF1/AN6/C2OUT (io), 24 RF0/AN5 (io), 25 AVDD (power), 26 AVSS (power), 27 RA3/AN3/VREF+ (io), 28 RA2/AN2/VREF- (io), 29 RA1/AN1 (io), 30 RA0/AN0 (io), 31 VSS (power), 32 VDD (power), 33 RA5/AN4/HLVDIN (io), 34 RA4/T0CKI (io), 35 RC1/T1OSI/ECCP2/P2A (io), 36 RC0/T1OSO/T13CKI (io), 37 RC6/TX1/CK1 (io), 38 RC7/RX1/DT1 (io), 39 RJ4/BA0 (io), 40 RJ5/~{CE} (io), 41 RJ6/~{LB} (io), 42 RJ7/~{UB} (io), 43 RC2/ECCP1/P1A (io), 44 RC3/SCK1/SCL1 (io), 45 RC4/SDI1/SDA1 (io), 46 RC5/SDO1 (io), 47 RB7/KBI3/PGD (io), 48 VDD (power), 49 OSC1/CLKI/RA7 (io), 50 OSC2/CLKO/RA6 (io), 51 VSS (power), 52 RB6/KBI2/PGC (io), 53 RB5/KBI1/PGM (io), 54 RB4/KBI0 (io), 55 RB3/INT3/ECCP2/P2A (io), 56 RB2/INT2 (io), 57 RB1/INT1 (io), 58 RB0/INT0 (io), 59 RJ3/~{WRH} (io), 60 RJ2/~{WRL} (io), 61 RJ1/~{OE} (io), 62 RJ0/ALE (io), 63 RD7/AD7/PSP7/~{SS2} (io), 64 RD6/AD6/PSP6/SCK2/SCL2 (io), 65 RD5/AD5/PSP5/SDI2/SDA2 (io), 66 RD4/AD4/PSP4/SDO2 (io), 67 RD3/AD3/PSP3 (io), 68 RD2/AD2/PSP2 (io), 69 RD1/AD1/PSP1 (io), 70 VSS (power), 71 VDD (power), 72 RD0/AD0/PSP0 (io), 73 RE7/AD15/ECCP2/P2A (io), 74 RE6/AD14/P1B (io), 75 RE5/AD13/P1C (io), 76 RE4/AD12/P3B (io), 77 RE3/AD11/P3C (io), 78 RE2/AD10/~{CS}/P2B (io), 79 RH0/A16 (io), 80 RH1/A17 (io)

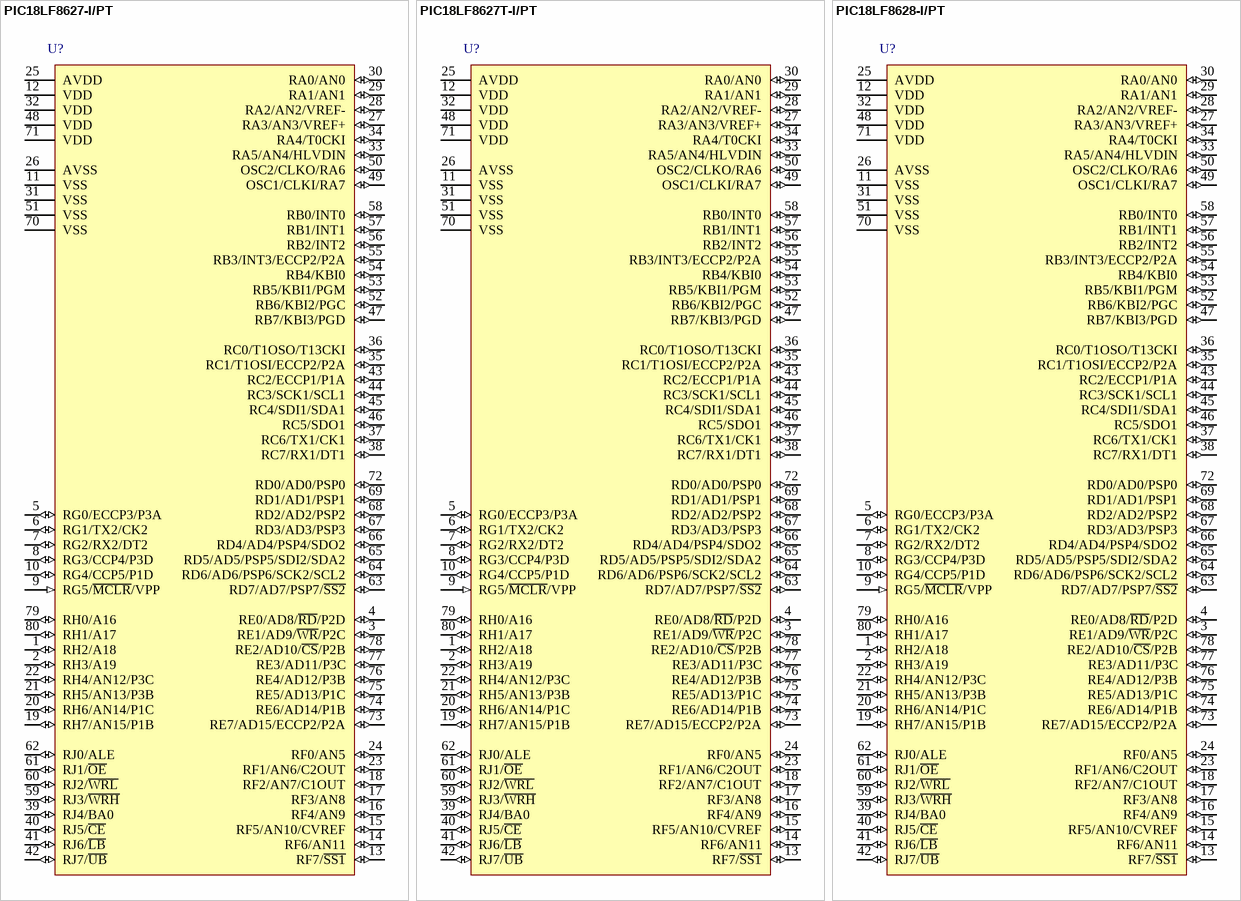
[diagram p147: symbols PIC18LF8627-I/PT to PIC18LF8628-I/PT]

## PIC18LF8627-I/PT
designator U?
1-Mbit, Enhanced Flash Microcontroller with 10-Bit A/D and nanoWatt Technology, 96K Flash, 80-Pin TQFP, Industrial Temperature Range; FirstPublished: 29-Jan-2009; DatasheetVersion: revC, Oct-2008; PackageVersion: revBB, Aug-2009; PackageReference: TQFP-PT80; Publisher: Altium Limited; PackageDescription: 80-Lead Thin Plastic Quad Flat Pack (PT) - 12x12x1mm Body, 2.00mm [TQFP]; Supplier 1: Digi-Key; Supplier Part Number 1: PIC18LF8627-I/PT-ND; Supplier 2: Newark; Supplier Part Number 2: 71J7301; Code_JEDEC: MS-026; ComponentLink1Description: Datasheet; ComponentLink1URL: http://ww1.microchip.com/downloads/en/DeviceDoc/39646c.pdf; ComponentLink2Description: Packaging Specification; ComponentLink2URL: http://www.microchip.com/stellent/groups/techpub_sg/documents/packagingspec/en012702.pdf; ComponentLink3Description: Microchip.com Home; ComponentLink3URL: http://www.microchip.com/
footprint TQFP-PT80_N (Thin QFP, 80-Leads, Body 12x12mm, Pitch 0.5mm, IPC Medium Density)
footprint TQFP-PT80_L (Thin QFP, 80-Leads, Body 12x12mm, Pitch 0.5mm, IPC High Density)
footprint TQFP-PT80_M (Thin QFP, 80-Leads, Body 12x12mm, Pitch 0.5mm, IPC Low Density)
pins: 1 RH2/A18 (io), 2 RH3/A19 (io), 3 RE1/AD9/~{WR}/P2C (io), 4 RE0/AD8/~{RD}/P2D (io), 5 RG0/ECCP3/P3A (io), 6 RG1/TX2/CK2 (io), 7 RG2/RX2/DT2 (io), 8 RG3/CCP4/P3D (io), 9 RG5/~{MCLR}/VPP (in), 10 RG4/CCP5/P1D (io), 11 VSS (power), 12 VDD (power), 13 RF7/~{SS1} (io), 14 RF6/AN11 (io), 15 RF5/AN10/CVREF (io), 16 RF4/AN9 (io), 17 RF3/AN8 (io), 18 RF2/AN7/C1OUT (io), 19 RH7/AN15/P1B (io), 20 RH6/AN14/P1C (io), 21 RH5/AN13/P3B (io), 22 RH4/AN12/P3C (io), 23 RF1/AN6/C2OUT (io), 24 RF0/AN5 (io), 25 AVDD (power), 26 AVSS (power), 27 RA3/AN3/VREF+ (io), 28 RA2/AN2/VREF- (io), 29 RA1/AN1 (io), 30 RA0/AN0 (io), 31 VSS (power), 32 VDD (power), 33 RA5/AN4/HLVDIN (io), 34 RA4/T0CKI (io), 35 RC1/T1OSI/ECCP2/P2A (io), 36 RC0/T1OSO/T13CKI (io), 37 RC6/TX1/CK1 (io), 38 RC7/RX1/DT1 (io), 39 RJ4/BA0 (io), 40 RJ5/~{CE} (io), 41 RJ6/~{LB} (io), 42 RJ7/~{UB} (io), 43 RC2/ECCP1/P1A (io), 44 RC3/SCK1/SCL1 (io), 45 RC4/SDI1/SDA1 (io), 46 RC5/SDO1 (io), 47 RB7/KBI3/PGD (io), 48 VDD (power), 49 OSC1/CLKI/RA7 (io), 50 OSC2/CLKO/RA6 (io), 51 VSS (power), 52 RB6/KBI2/PGC (io), 53 RB5/KBI1/PGM (io), 54 RB4/KBI0 (io), 55 RB3/INT3/ECCP2/P2A (io), 56 RB2/INT2 (io), 57 RB1/INT1 (io), 58 RB0/INT0 (io), 59 RJ3/~{WRH} (io), 60 RJ2/~{WRL} (io), 61 RJ1/~{OE} (io), 62 RJ0/ALE (io), 63 RD7/AD7/PSP7/~{SS2} (io), 64 RD6/AD6/PSP6/SCK2/SCL2 (io), 65 RD5/AD5/PSP5/SDI2/SDA2 (io), 66 RD4/AD4/PSP4/SDO2 (io), 67 RD3/AD3/PSP3 (io), 68 RD2/AD2/PSP2 (io), 69 RD1/AD1/PSP1 (io), 70 VSS (power), 71 VDD (power), 72 RD0/AD0/PSP0 (io), 73 RE7/AD15/ECCP2/P2A (io), 74 RE6/AD14/P1B (io), 75 RE5/AD13/P1C (io), 76 RE4/AD12/P3B (io), 77 RE3/AD11/P3C (io), 78 RE2/AD10/~{CS}/P2B (io), 79 RH0/A16 (io), 80 RH1/A17 (io)

## PIC18LF8627T-I/PT
designator U?
1-Mbit, Enhanced Flash Microcontroller with 10-Bit A/D and nanoWatt Technology, 96K Flash, 80-Pin TQFP, Industrial Temperature Range, Tape and Reel; FirstPublished: 29-Jan-2009; DatasheetVersion: revC, Oct-2008; PackageVersion: revBB, Aug-2009; PackageReference: TQFP-PT80; Publisher: Altium Limited; PackageDescription: 80-Lead Thin Plastic Quad Flat Pack (PT) - 12x12x1mm Body, 2.00mm [TQFP]; Supplier 1: Digi-Key; Supplier Part Number 1: PIC18LF8627T-I/PT-ND; Supplier 2: Newark; Supplier Part Number 2: 71J7302; Code_JEDEC: MS-026; ComponentLink1Description: Datasheet; ComponentLink1URL: http://ww1.microchip.com/downloads/en/DeviceDoc/39646c.pdf; ComponentLink2Description: Packaging Specification; ComponentLink2URL: http://www.microchip.com/stellent/groups/techpub_sg/documents/packagingspec/en012702.pdf; ComponentLink3Description: Microchip.com Home; ComponentLink3URL: http://www.microchip.com/
footprint TQFP-PT80_N (Thin QFP, 80-Leads, Body 12x12mm, Pitch 0.5mm, IPC Medium Density)
footprint TQFP-PT80_L (Thin QFP, 80-Leads, Body 12x12mm, Pitch 0.5mm, IPC High Density)
footprint TQFP-PT80_M (Thin QFP, 80-Leads, Body 12x12mm, Pitch 0.5mm, IPC Low Density)
pins: 1 RH2/A18 (io), 2 RH3/A19 (io), 3 RE1/AD9/~{WR}/P2C (io), 4 RE0/AD8/~{RD}/P2D (io), 5 RG0/ECCP3/P3A (io), 6 RG1/TX2/CK2 (io), 7 RG2/RX2/DT2 (io), 8 RG3/CCP4/P3D (io), 9 RG5/~{MCLR}/VPP (in), 10 RG4/CCP5/P1D (io), 11 VSS (power), 12 VDD (power), 13 RF7/~{SS1} (io), 14 RF6/AN11 (io), 15 RF5/AN10/CVREF (io), 16 RF4/AN9 (io), 17 RF3/AN8 (io), 18 RF2/AN7/C1OUT (io), 19 RH7/AN15/P1B (io), 20 RH6/AN14/P1C (io), 21 RH5/AN13/P3B (io), 22 RH4/AN12/P3C (io), 23 RF1/AN6/C2OUT (io), 24 RF0/AN5 (io), 25 AVDD (power), 26 AVSS (power), 27 RA3/AN3/VREF+ (io), 28 RA2/AN2/VREF- (io), 29 RA1/AN1 (io), 30 RA0/AN0 (io), 31 VSS (power), 32 VDD (power), 33 RA5/AN4/HLVDIN (io), 34 RA4/T0CKI (io), 35 RC1/T1OSI/ECCP2/P2A (io), 36 RC0/T1OSO/T13CKI (io), 37 RC6/TX1/CK1 (io), 38 RC7/RX1/DT1 (io), 39 RJ4/BA0 (io), 40 RJ5/~{CE} (io), 41 RJ6/~{LB} (io), 42 RJ7/~{UB} (io), 43 RC2/ECCP1/P1A (io), 44 RC3/SCK1/SCL1 (io), 45 RC4/SDI1/SDA1 (io), 46 RC5/SDO1 (io), 47 RB7/KBI3/PGD (io), 48 VDD (power), 49 OSC1/CLKI/RA7 (io), 50 OSC2/CLKO/RA6 (io), 51 VSS (power), 52 RB6/KBI2/PGC (io), 53 RB5/KBI1/PGM (io), 54 RB4/KBI0 (io), 55 RB3/INT3/ECCP2/P2A (io), 56 RB2/INT2 (io), 57 RB1/INT1 (io), 58 RB0/INT0 (io), 59 RJ3/~{WRH} (io), 60 RJ2/~{WRL} (io), 61 RJ1/~{OE} (io), 62 RJ0/ALE (io), 63 RD7/AD7/PSP7/~{SS2} (io), 64 RD6/AD6/PSP6/SCK2/SCL2 (io), 65 RD5/AD5/PSP5/SDI2/SDA2 (io), 66 RD4/AD4/PSP4/SDO2 (io), 67 RD3/AD3/PSP3 (io), 68 RD2/AD2/PSP2 (io), 69 RD1/AD1/PSP1 (io), 70 VSS (power), 71 VDD (power), 72 RD0/AD0/PSP0 (io), 73 RE7/AD15/ECCP2/P2A (io), 74 RE6/AD14/P1B (io), 75 RE5/AD13/P1C (io), 76 RE4/AD12/P3B (io), 77 RE3/AD11/P3C (io), 78 RE2/AD10/~{CS}/P2B (io), 79 RH0/A16 (io), 80 RH1/A17 (io)

## PIC18LF8628-I/PT
designator U?
Enhanced Flash Microcontroller with 12-Bit A/D and nanoWatt Technology, 96K Flash, 80-Pin TQFP, Industrial Temperature; FirstPublished: 29-Jan-2009; DatasheetVersion: revB, Oct-2009; PackageVersion: revBB, Aug-2009; PackageReference: TQFP-PT80; Publisher: Altium Limited; PackageDescription: 80-Lead Thin Plastic Quad Flat Pack (PT) - 12x12x1mm Body, 2.00mm [TQFP]; Supplier 1: Digi-Key; Supplier Part Number 1: PIC18LF8628-I/PT-ND; Supplier 2: Farnell; Supplier Part Number 2: 1548434; Supplier 3: Newark; Supplier Part Number 3: 54M5085; Code_JEDEC: MS-026; ComponentLink1Description: Datasheet; ComponentLink1URL: http://ww1.microchip.com/downloads/en/DeviceDoc/39894b.pdf; ComponentLink2Description: Packaging Specification; ComponentLink2URL: http://www.microchip.com/stellent/groups/techpub_sg/documents/packagingspec/en012702.pdf; ComponentLink3Description: Microchip.com Home; ComponentLink3URL: http://www.microchip.com/
footprint TQFP-PT80_N (Thin QFP, 80-Leads, Body 12x12mm, Pitch 0.5mm, IPC Medium Density)
footprint TQFP-PT80_L (Thin QFP, 80-Leads, Body 12x12mm, Pitch 0.5mm, IPC High Density)
footprint TQFP-PT80_M (Thin QFP, 80-Leads, Body 12x12mm, Pitch 0.5mm, IPC Low Density)
pins: 1 RH2/A18 (io), 2 RH3/A19 (io), 3 RE1/AD9/~{WR}/P2C (io), 4 RE0/AD8/~{RD}/P2D (io), 5 RG0/ECCP3/P3A (io), 6 RG1/TX2/CK2 (io), 7 RG2/RX2/DT2 (io), 8 RG3/CCP4/P3D (io), 9 RG5/~{MCLR}/VPP (in), 10 RG4/CCP5/P1D (io), 11 VSS (power), 12 VDD (power), 13 RF7/~{SS1} (io), 14 RF6/AN11 (io), 15 RF5/AN10/CVREF (io), 16 RF4/AN9 (io), 17 RF3/AN8 (io), 18 RF2/AN7/C1OUT (io), 19 RH7/AN15/P1B (io), 20 RH6/AN14/P1C (io), 21 RH5/AN13/P3B (io), 22 RH4/AN12/P3C (io), 23 RF1/AN6/C2OUT (io), 24 RF0/AN5 (io), 25 AVDD (power), 26 AVSS (power), 27 RA3/AN3/VREF+ (io), 28 RA2/AN2/VREF- (io), 29 RA1/AN1 (io), 30 RA0/AN0 (io), 31 VSS (power), 32 VDD (power), 33 RA5/AN4/HLVDIN (io), 34 RA4/T0CKI (io), 35 RC1/T1OSI/ECCP2/P2A (io), 36 RC0/T1OSO/T13CKI (io), 37 RC6/TX1/CK1 (io), 38 RC7/RX1/DT1 (io), 39 RJ4/BA0 (io), 40 RJ5/~{CE} (io), 41 RJ6/~{LB} (io), 42 RJ7/~{UB} (io), 43 RC2/ECCP1/P1A (io), 44 RC3/SCK1/SCL1 (io), 45 RC4/SDI1/SDA1 (io), 46 RC5/SDO1 (io), 47 RB7/KBI3/PGD (io), 48 VDD (power), 49 OSC1/CLKI/RA7 (io), 50 OSC2/CLKO/RA6 (io), 51 VSS (power), 52 RB6/KBI2/PGC (io), 53 RB5/KBI1/PGM (io), 54 RB4/KBI0 (io), 55 RB3/INT3/ECCP2/P2A (io), 56 RB2/INT2 (io), 57 RB1/INT1 (io), 58 RB0/INT0 (io), 59 RJ3/~{WRH} (io), 60 RJ2/~{WRL} (io), 61 RJ1/~{OE} (io), 62 RJ0/ALE (io), 63 RD7/AD7/PSP7/~{SS2} (io), 64 RD6/AD6/PSP6/SCK2/SCL2 (io), 65 RD5/AD5/PSP5/SDI2/SDA2 (io), 66 RD4/AD4/PSP4/SDO2 (io), 67 RD3/AD3/PSP3 (io), 68 RD2/AD2/PSP2 (io), 69 RD1/AD1/PSP1 (io), 70 VSS (power), 71 VDD (power), 72 RD0/AD0/PSP0 (io), 73 RE7/AD15/ECCP2/P2A (io), 74 RE6/AD14/P1B (io), 75 RE5/AD13/P1C (io), 76 RE4/AD12/P3B (io), 77 RE3/AD11/P3C (io), 78 RE2/AD10/~{CS}/P2B (io), 79 RH0/A16 (io), 80 RH1/A17 (io)

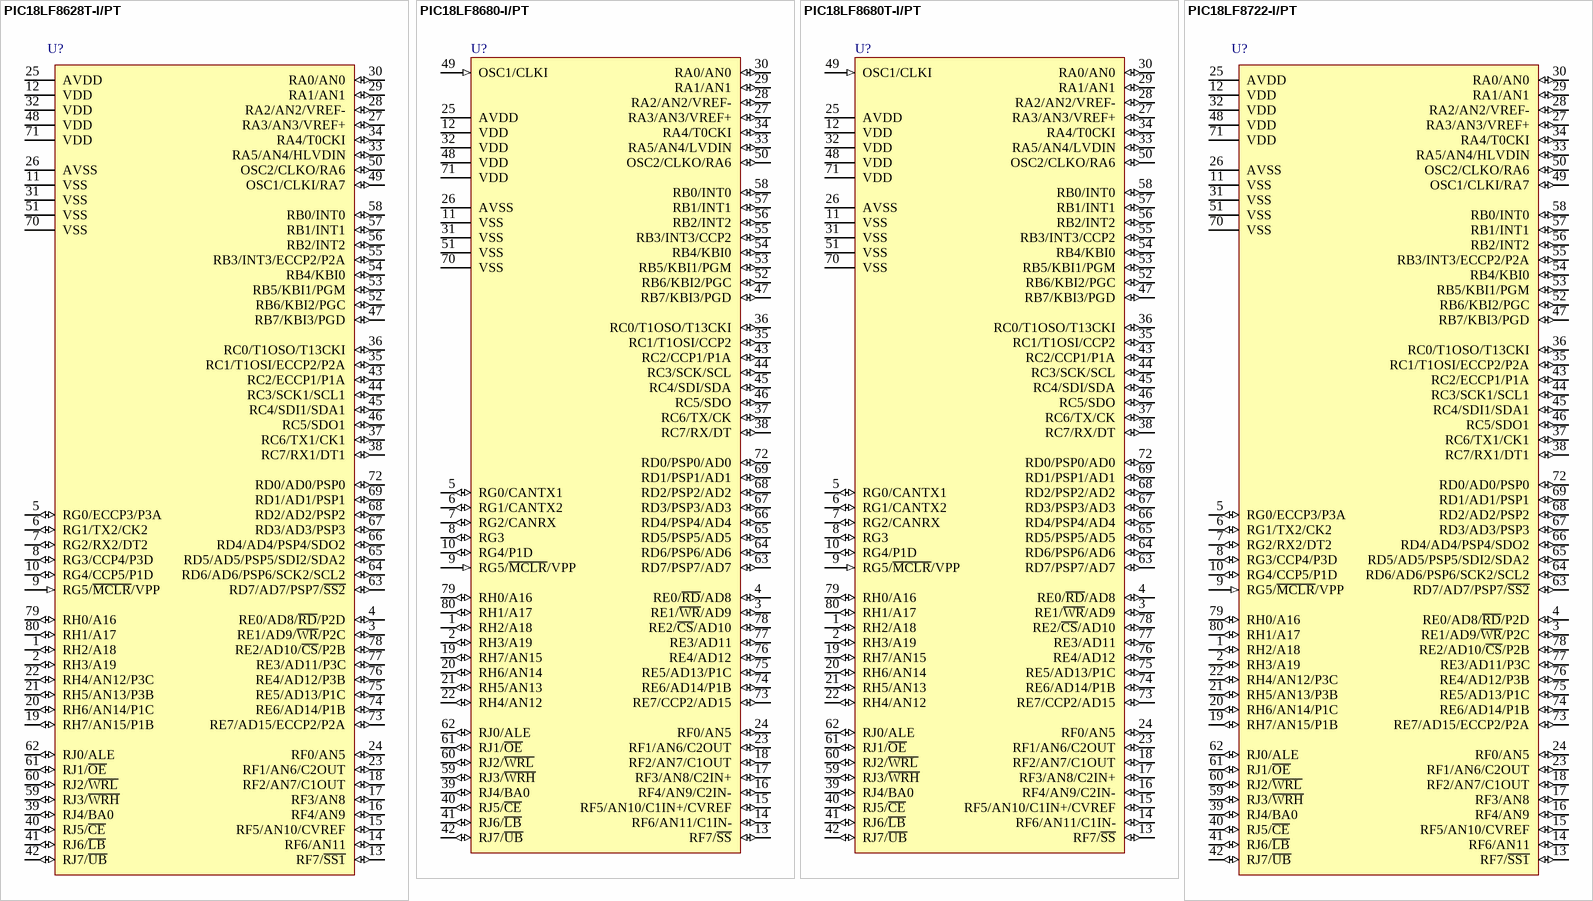
[diagram p148: symbols PIC18LF8628T-I/PT to PIC18LF8722-I/PT]